# Altium footprint library Sykam-Mech1.PcbLib: 15 footprints (part 3 of 4)
Each footprint in its own frame and in the unit in brackets; x right, y up, seen from the top. Pads: shape width x height; smd on the part's side, far side on the other; paste and mask are expansions set on the pad; w line width, h text height; cw(c..) or ccw(c..) is an arc to the next point about the centre after c.
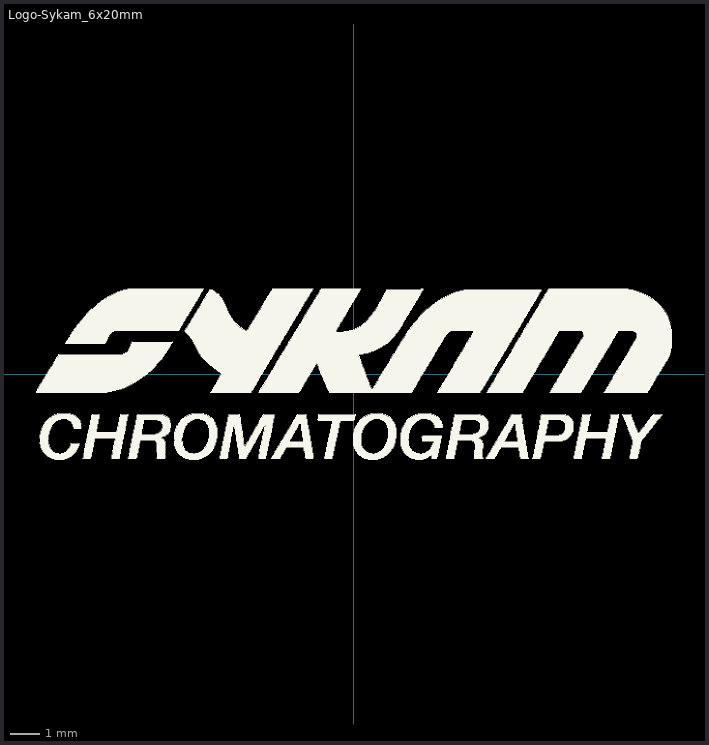
[diagram p2: the footprint, top view; thin cyan lines are the x and y axes]

## Logo-Sykam_6x20mm [mm] "Logo Sykam GmbH in Overlay"
pads (3956):
  round 0.033 on Top Overlay: 1(-10.866,-0.628) 1(-10.866,-0.595) 1(-10.832,-0.562) 1(-10.832,-0.529) 1(-10.799,-0.496) 1(-10.766,-0.463) 1(-10.766,-0.43) 1(-10.733,-2.381) 1(-10.733,-2.348) 1(-10.733,-2.315) 1(-10.733,-2.282) 1(-10.733,-2.249) 1(-10.733,-2.216) 1(-10.733,-2.183) 1(-10.733,-2.15) 1(-10.733,-2.117) 1(-10.733,-2.084) 1(-10.733,-0.397) 1(-10.733,-0.364) 1(-10.7,-2.514) 1(-10.7,-2.481) 1(-10.7,-2.448) 1(-10.7,-2.415) 1(-10.7,-2.051) 1(-10.7,-2.018) 1(-10.7,-1.985) 1(-10.7,-1.951) 1(-10.7,-0.331) 1(-10.667,-2.58) 1(-10.667,-2.547) 1(-10.667,-1.918) 1(-10.667,-1.885) 1(-10.667,-1.852) 1(-10.667,-0.298) 1(-10.667,-0.265) 1(-10.634,-2.646) 1(-10.634,-2.613) 1(-10.634,-1.819) 1(-10.634,-1.786) 1(-10.634,-1.753) 1(-10.634,-0.232) 1(-10.634,-0.198) 1(-10.601,-2.679) 1(-10.601,-1.72) 1(-10.601,-0.165) 1(-10.568,-2.712) 1(-10.568,-1.687) 1(-10.568,-1.654) 1(-10.568,-0.132) 1(-10.568,-0.099) 1(-10.535,-2.745) 1(-10.535,-1.621) 1(-10.535,-0.066) 1(-10.535,-0.033) 1(-10.502,-2.778) 1(-10.502,-1.588) 1(-10.502,0) 1(-10.469,-2.811) 1(-10.469,-2.381) 1(-10.469,-2.348) 1(-10.469,-2.315) 1(-10.469,-2.282) 1(-10.469,-2.249) 1(-10.469,-2.216) 1(-10.469,-2.183) 1(-10.469,-2.15) 1(-10.469,-2.117) 1(-10.469,-2.084) 1(-10.469,-1.555) 1(-10.469,0.033) 1(-10.469,0.066) 1(-10.436,-2.481) 1(-10.436,-2.448) 1(-10.436,-2.415) 1(-10.436,-2.051) 1(-10.436,-2.018) 1(-10.436,-1.985) 1(-10.436,-1.951) 1(-10.436,-1.522) 1(-10.436,0.099) 1(-10.436,0.132) 1(-10.402,-2.845) 1(-10.402,-2.547) 1(-10.402,-2.514) 1(-10.402,-1.918) 1(-10.402,-1.885) 1(-10.402,-1.488) 1(-10.402,0.165) 1(-10.369,-2.58) 1(-10.369,-1.852) 1(-10.369,-1.819) 1(-10.369,0.198) 1(-10.369,0.232) 1(-10.336,-2.878) 1(-10.336,-2.613) 1(-10.336,-1.786) 1(-10.336,-1.753) 1(-10.336,-1.455) 1(-10.336,0.265) 1(-10.303,-2.646) 1(-10.303,-1.72) 1(-10.303,-1.422) 1(-10.303,0.298) 1(-10.303,0.331) 1(-10.27,-1.687) 1(-10.27,0.364) 1(-10.27,0.397) 1(-10.237,-2.911) 1(-10.237,-2.679) 1(-10.237,-1.654) 1(-10.237,-1.389) 1(-10.237,0.43) 1(-10.204,-1.621) 1(-10.204,0.463) 1(-10.204,0.496) 1(-10.171,0.529) 1(-10.171,0.562) 1(-10.138,-1.588) 1(-10.138,-1.356) 1(-10.138,0.595) 1(-10.105,-2.712) 1(-10.105,0.628) 1(-10.105,0.662) 1(-10.039,-1.555) 1(-10.006,-2.712) 1(-9.906,-2.911) 1(-9.906,-2.679) 1(-9.873,1.058) 1(-9.84,-2.646) 1(-9.84,1.092) 1(-9.84,1.125) 1(-9.807,-2.878) 1(-9.807,-2.613) 1(-9.807,-1.555) 1(-9.807,1.158) 1(-9.774,-2.58) 1(-9.774,1.191) 1(-9.774,1.224) 1(-9.741,-2.845) 1(-9.741,-2.547) 1(-9.741,-1.588) 1(-9.741,1.257) 1(-9.708,-2.514) 1(-9.708,-2.481) 1(-9.708,-1.356) 1(-9.708,1.29) 1(-9.708,1.323) 1(-9.675,-2.811) 1(-9.675,-2.448) 1(-9.675,-2.415) 1(-9.675,-2.381) 1(-9.675,-1.621) 1(-9.675,1.356) 1(-9.642,-2.778) 1(-9.642,-1.687) 1(-9.642,-1.654) 1(-9.642,1.389) 1(-9.642,1.422) 1(-9.609,-2.745) 1(-9.609,-1.786) 1(-9.609,-1.753) 1(-9.609,-1.72) 1(-9.609,-1.389) 1(-9.609,1.455) 1(-9.576,-2.712) 1(-9.576,-1.852) 1(-9.576,-1.819) 1(-9.576,1.488) 1(-9.576,1.522) 1(-9.543,-2.679) 1(-9.543,-1.422) 1(-9.543,1.555) 1(-9.509,-2.646) 1(-9.509,-2.613) 1(-9.509,-1.455) 1(-9.509,1.588) 1(-9.476,-2.58) 1(-9.476,-2.547) 1(-9.476,-1.488) 1(-9.476,1.621) 1(-9.476,1.654) 1(-9.443,-2.514) 1(-9.443,-2.481) 1(-9.443,-1.522) 1(-9.443,1.687) 1(-9.41,-2.448) 1(-9.41,-2.415) 1(-9.41,-2.381) 1(-9.41,-1.555) 1(-9.41,1.72) 1(-9.377,-1.654) 1(-9.377,-1.621) 1(-9.377,-1.588) 1(-9.377,1.753) 1(-9.377,1.786) 1(-9.344,-1.852) 1(-9.344,-1.819) 1(-9.344,-1.786) 1(-9.344,-1.753) 1(-9.344,-1.72) 1(-9.344,-1.687) 1(-9.344,1.819) 1(-9.311,1.852) 1(-9.278,-2.878) 1(-9.278,1.885) 1(-9.245,-2.845) 1(-9.245,-2.811) 1(-9.245,-2.778) 1(-9.245,-2.745) 1(-9.245,-2.712) 1(-9.245,1.918) 1(-9.212,-2.679) 1(-9.212,-2.646) 1(-9.212,-2.613) 1(-9.212,-2.58) 1(-9.212,-2.547) 1(-9.212,1.952) 1(-9.179,-2.514) 1(-9.179,-2.481) 1(-9.179,-2.448) 1(-9.179,-2.415) 1(-9.179,-2.381) 1(-9.179,1.985) 1(-9.146,-2.348) 1(-9.146,-2.315) 1(-9.146,-2.282) 1(-9.146,-2.249) 1(-9.146,-2.216) 1(-9.146,2.018) 1(-9.146,2.051) 1(-9.113,-2.183) 1(-9.113,-2.15) 1(-9.113,-2.117) 1(-9.113,-2.084) 1(-9.113,-2.051) 1(-9.113,2.084) 1(-9.079,-2.018) 1(-9.079,-1.985) 1(-9.079,-1.951) 1(-9.079,-1.918) 1(-9.079,2.117) 1(-9.046,-1.885) 1(-9.046,-1.852) 1(-9.046,-1.819) 1(-9.046,-1.786) 1(-9.046,-1.753) 1(-9.046,2.15) 1(-9.013,-2.878) 1(-9.013,-2.845) 1(-9.013,-1.72) 1(-9.013,-1.687) 1(-9.013,-1.654) 1(-9.013,-1.621) 1(-9.013,-1.588) 1(-9.013,2.183) 1(-8.98,-2.811) 1(-8.98,-2.778) 1(-8.98,-2.745) 1(-8.98,-2.712) 1(-8.98,-2.679) 1(-8.98,-1.555) 1(-8.98,-1.522) 1(-8.98,-1.488) 1(-8.98,-1.455) 1(-8.98,-1.422) 1(-8.98,2.216) 1(-8.947,-2.646) 1(-8.947,-2.613) 1(-8.947,-2.58) 1(-8.947,-2.547) 1(-8.947,-2.514) 1(-8.947,-1.389) 1(-8.914,-2.481) 1(-8.914,-2.448) 1(-8.914,-2.415) 1(-8.914,-2.381) 1(-8.914,-2.348) 1(-8.914,2.249) 1(-8.881,-2.315) 1(-8.881,-2.282) 1(-8.881,-2.249) 1(-8.881,-2.216) 1(-8.881,2.282) 1(-8.848,2.315) 1(-8.815,-1.951) 1(-8.815,-1.918) 1(-8.815,-1.885) 1(-8.815,2.348) 1(-8.782,-1.852) 1(-8.782,-1.819) 1(-8.782,-1.786) 1(-8.782,-1.753) 1(-8.782,-1.72) 1(-8.782,2.381) 1(-8.749,-1.687) 1(-8.749,-1.654) 1(-8.749,-1.621) 1(-8.749,-1.588) 1(-8.749,-1.555) 1(-8.749,2.415) 1(-8.716,-1.522) 1(-8.716,-1.488) 1(-8.716,-1.455) 1(-8.716,-1.422) 1(-8.716,-1.389) 1(-8.683,2.448) 1(-8.649,2.481) 1(-8.616,2.514) 1(-8.55,2.547) 1(-8.517,1.058) 1(-8.517,2.58) 1(-8.484,1.092) 1(-8.484,1.125) 1(-8.451,-0.628) 1(-8.451,1.158) 1(-8.451,1.191) 1(-8.451,2.613) 1(-8.418,1.224) 1(-8.418,1.257) 1(-8.418,2.646) 1(-8.385,1.29) 1(-8.385,1.323) 1(-8.352,1.356) 1(-8.352,2.679) 1(-8.319,1.389) 1(-8.286,-2.878) 1(-8.286,-2.845) 1(-8.286,-2.811) 1(-8.286,-2.778) 1(-8.286,-0.595) 1(-8.286,1.422) 1(-8.286,2.712) 1(-8.253,-2.745) 1(-8.253,-2.712) 1(-8.253,-2.679) 1(-8.253,-2.646) 1(-8.253,-2.613) 1(-8.219,-2.58) 1(-8.219,-2.547) 1(-8.219,-2.514) 1(-8.219,-2.481) 1(-8.219,-2.448) 1(-8.219,1.455) 1(-8.219,2.745) 1(-8.186,-2.415) 1(-8.186,-2.381) 1(-8.186,-2.348) 1(-8.186,-2.315) 1(-8.186,-2.282) 1(-8.153,-2.249) 1(-8.153,-2.216) 1(-8.153,-0.562) 1(-8.153,2.778) 1(-8.12,-1.951) 1(-8.087,-1.918) 1(-8.087,-1.885) 1(-8.087,-1.852) 1(-8.087,-1.819) 1(-8.087,2.811) 1(-8.054,-1.786) 1(-8.054,-1.753) 1(-8.054,-1.72) 1(-8.054,-1.687) 1(-8.054,-1.654) 1(-8.054,-0.529) 1(-8.021,-2.878) 1(-8.021,-2.845) 1(-8.021,-2.811) 1(-8.021,-2.778) 1(-8.021,-2.745) 1(-8.021,-1.621) 1(-8.021,-1.588) 1(-8.021,-1.555) 1(-8.021,-1.522) 1(-8.021,-1.488) 1(-7.988,-2.712) 1(-7.988,-2.679) 1(-7.988,-2.646) 1(-7.988,-2.613) 1(-7.988,-2.58) 1(-7.988,-1.455) 1(-7.988,-1.422) 1(-7.988,-1.389) 1(-7.988,2.845) 1(-7.955,-2.547) 1(-7.955,-2.514) 1(-7.955,-2.481) 1(-7.955,-2.448) 1(-7.955,-2.415) 1(-7.955,-0.496) 1(-7.922,-2.381) 1(-7.922,-2.348) 1(-7.922,-2.315) 1(-7.922,-2.282) 1(-7.922,-2.249) 1(-7.889,-2.216) 1(-7.889,-2.183) 1(-7.889,-2.15) 1(-7.889,-2.117) 1(-7.889,-2.084) 1(-7.889,0.695) 1(-7.889,2.878) 1(-7.856,-2.051) 1(-7.856,-2.018) 1(-7.856,-1.985) 1(-7.856,-1.951) 1(-7.856,-0.463) 1(-7.823,-1.918) 1(-7.823,-1.885) 1(-7.823,-1.852) 1(-7.823,-1.819) 1(-7.823,-1.786) 1(-7.823,0.728) 1(-7.789,-1.753) 1(-7.789,-1.72) 1(-7.789,-1.687) 1(-7.789,-1.654) 1(-7.789,-1.621) 1(-7.789,-0.43) 1(-7.756,-1.588) 1(-7.756,-1.555) 1(-7.756,-1.522) 1(-7.756,-1.488) 1(-7.756,-1.455) 1(-7.756,0.761) 1(-7.723,-2.878) 1(-7.723,-1.422) 1(-7.723,-1.389) 1(-7.723,-0.397) 1(-7.723,0.794) 1(-7.723,2.911) 1(-7.69,-2.845) 1(-7.69,-2.811) 1(-7.69,-2.778) 1(-7.69,-2.745) 1(-7.69,-2.712) 1(-7.69,0.827) 1(-7.69,0.86) 1(-7.657,-2.679) 1(-7.657,-2.646) 1(-7.657,-2.613) 1(-7.657,-2.58) 1(-7.657,-2.547) 1(-7.657,-0.364) 1(-7.657,0.893) 1(-7.657,0.926) 1(-7.624,-2.514) 1(-7.624,-2.481) 1(-7.624,-2.448) 1(-7.624,-2.415) 1(-7.624,-2.381) 1(-7.624,0.959) 1(-7.624,0.992) 1(-7.624,1.025) 1(-7.591,-2.348) 1(-7.591,-2.315) 1(-7.591,-2.282) 1(-7.591,-2.249) 1(-7.591,-2.216) 1(-7.591,-0.331) 1(-7.591,1.058) 1(-7.591,1.092) 1(-7.558,-2.183) 1(-7.558,-2.15) 1(-7.558,-2.117) 1(-7.558,-2.084) 1(-7.558,-2.051) 1(-7.525,-2.018) 1(-7.525,-1.985) 1(-7.525,-1.951) 1(-7.525,-1.918) 1(-7.525,-0.298) 1(-7.492,-1.885) 1(-7.492,-1.852) 1(-7.492,-1.819) 1(-7.492,-1.786) 1(-7.492,-1.753) 1(-7.459,-2.878) 1(-7.459,-1.72) 1(-7.459,-1.687) 1(-7.459,-1.654) 1(-7.459,-1.621) 1(-7.459,-1.588) 1(-7.459,-0.265) 1(-7.426,-2.845) 1(-7.426,-2.811) 1(-7.426,-2.778) 1(-7.426,-2.745) 1(-7.426,-2.712) 1(-7.426,-1.555) 1(-7.426,-1.522) 1(-7.426,-1.488) 1(-7.426,-1.455) 1(-7.426,-1.422) 1(-7.426,-0.232) 1(-7.393,-2.679) 1(-7.393,-2.646) 1(-7.393,-2.613) 1(-7.393,-2.58) 1(-7.393,-2.547) 1(-7.393,-1.389) 1(-7.359,-2.514) 1(-7.359,-2.481) 1(-7.359,-2.448) 1(-7.359,-2.415) 1(-7.359,-2.381) 1(-7.359,-0.198) 1(-7.326,-2.348) 1(-7.326,-2.315) 1(-7.326,-2.282) 1(-7.326,-0.165) 1(-7.26,-2.051) 1(-7.26,-2.018) 1(-7.26,-1.985) 1(-7.26,-1.951) 1(-7.26,-1.918) 1(-7.26,-1.885) 1(-7.26,-0.132) 1(-7.227,-1.852) 1(-7.227,-1.819) 1(-7.227,-1.786) 1(-7.227,-1.753) 1(-7.227,-1.72) 1(-7.227,-0.099) 1(-7.194,-1.687) 1(-7.194,-1.654) 1(-7.194,-1.621) 1(-7.194,-1.588) 1(-7.161,-0.066) 1(-7.128,-0.033) 1(-7.095,0) 1(-7.062,0.033) 1(-7.029,0.066) 1(-6.963,0.099) 1(-6.929,0.132) 1(-6.896,0.165) 1(-6.863,0.198) 1(-6.83,0.232) 1(-6.797,-2.282) 1(-6.797,0.265) 1(-6.764,-2.315) 1(-6.764,-2.051) 1(-6.764,0.298) 1(-6.764,0.331) 1(-6.731,-2.878) 1(-6.731,-2.845) 1(-6.731,-2.811) 1(-6.731,-2.778) 1(-6.731,-2.745) 1(-6.731,-2.712) 1(-6.731,-2.679) 1(-6.731,-2.646) 1(-6.731,-2.613) 1(-6.731,-2.58) 1(-6.731,-2.547) 1(-6.731,-2.514) 1(-6.731,-2.481) 1(-6.731,-2.448) 1(-6.731,-2.415) 1(-6.731,-2.381) 1(-6.731,-2.348) 1(-6.731,0.364) 1(-6.698,-1.588) 1(-6.698,0.397) 1(-6.665,-2.018) 1(-6.665,0.43) 1(-6.632,-1.985) 1(-6.632,0.463) 1(-6.599,-2.183) 1(-6.599,-1.951) 1(-6.599,-1.621) 1(-6.599,0.496) 1(-6.566,-2.15) 1(-6.566,-1.918) 1(-6.566,-1.885) 1(-6.566,-1.687) 1(-6.566,-1.654) 1(-6.566,0.529) 1(-6.566,0.562) 1(-6.533,-2.216) 1(-6.533,-1.852) 1(-6.533,-1.819) 1(-6.533,-1.786) 1(-6.533,-1.753) 1(-6.533,-1.72) 1(-6.533,-1.389) 1(-6.533,0.595) 1(-6.499,-2.282) 1(-6.499,-2.249) 1(-6.499,0.628) 1(-6.499,0.662) 1(-6.466,-2.878) 1(-6.466,-2.845) 1(-6.466,-2.811) 1(-6.466,-2.778) 1(-6.466,-2.745) 1(-6.466,-2.712) 1(-6.466,-2.679) 1(-6.466,-2.646) 1(-6.466,-2.613) 1(-6.466,-2.58) 1(-6.466,-2.547) 1(-6.466,-2.514) 1(-6.466,-2.481) 1(-6.466,-2.448) 1(-6.466,-2.415) 1(-6.466,-2.381) 1(-6.466,-2.348) 1(-6.466,-2.315) 1(-6.466,-2.117) 1(-6.466,-1.422) 1(-6.466,0.695) 1(-6.433,-2.084) 1(-6.433,0.728) 1(-6.4,-1.455) 1(-6.4,0.761) 1(-6.4,0.794) 1(-6.367,-2.051) 1(-6.367,-2.018) 1(-6.367,-1.488) 1(-6.367,0.827) 1(-6.367,0.86) 1(-6.334,-1.985) 1(-6.334,-1.555) 1(-6.334,-1.522) 1(-6.334,0.893) 1(-6.301,-1.951) 1(-6.301,-1.918) 1(-6.301,-1.885) 1(-6.301,-1.852) 1(-6.301,-1.654) 1(-6.301,-1.621) 1(-6.301,-1.588) 1(-6.301,0.926) 1(-6.301,0.959) 1(-6.268,-1.819) 1(-6.268,-1.786) 1(-6.268,-1.753) 1(-6.268,-1.72) 1(-6.268,-1.687) 1(-6.268,0.992) 1(-6.268,1.025) 1(-6.235,1.058) 1(-6.202,1.092) 1(-6.136,-2.448) 1(-6.136,-2.415) 1(-6.136,-2.381) 1(-6.136,-2.348) 1(-6.136,-2.315) 1(-6.136,-2.282) 1(-6.136,-2.249) 1(-6.136,-2.216) 1(-6.136,-2.183) 1(-6.136,-2.15) 1(-6.136,-2.117) 1(-6.136,-2.084) 1(-6.136,-2.051) 1(-6.136,-2.018) 1(-6.136,-1.985) 1(-6.103,-2.547) 1(-6.103,-2.514) 1(-6.103,-2.481) 1(-6.103,-1.951) 1(-6.103,-1.918) 1(-6.103,-1.885) 1(-6.069,-2.613) 1(-6.069,-2.58) 1(-6.069,-1.852) 1(-6.069,-1.819) 1(-6.069,-1.786) 1(-6.036,-2.679) 1(-6.036,-2.646) 1(-6.036,-1.753) 1(-6.003,-2.712) 1(-6.003,-1.72) 1(-6.003,-1.687) 1(-6.003,1.488) 1(-5.97,-2.745) 1(-5.97,-1.654) 1(-5.97,1.522) 1(-5.97,1.555) 1(-5.937,-2.778) 1(-5.937,-1.621) 1(-5.937,-1.588) 1(-5.937,1.588) 1(-5.937,1.621) 1(-5.904,-2.282) 1(-5.904,-2.249) 1(-5.904,-2.216) 1(-5.904,-2.183) 1(-5.904,-1.555) 1(-5.904,1.654) 1(-5.871,-2.811) 1(-5.871,-2.448) 1(-5.871,-2.415) 1(-5.871,-2.381) 1(-5.871,-2.348) 1(-5.871,-2.315) 1(-5.871,-2.15) 1(-5.871,-2.117) 1(-5.871,-2.084) 1(-5.871,-2.051) 1(-5.871,-2.018) 1(-5.871,-1.522) 1(-5.871,1.687) 1(-5.871,1.72) 1(-5.838,-2.845) 1(-5.838,-2.514) 1(-5.838,-2.481) 1(-5.838,-1.985) 1(-5.838,-1.951) 1(-5.838,-1.918) 1(-5.838,1.753) 1(-5.838,1.786) 1(-5.805,-2.58) 1(-5.805,-2.547) 1(-5.805,-1.885) 1(-5.805,-1.852) 1(-5.805,-1.488) 1(-5.805,1.819) 1(-5.772,-2.878) 1(-5.772,-2.613) 1(-5.772,-1.819) 1(-5.772,-1.786) 1(-5.772,-1.455) 1(-5.772,1.455) 1(-5.772,1.488) 1(-5.772,1.852) 1(-5.772,1.885) 1(-5.739,-1.753) 1(-5.739,1.422) 1(-5.739,1.522) 1(-5.739,1.555) 1(-5.739,1.918) 1(-5.739,1.952) 1(-5.706,-2.646) 1(-5.706,-1.72) 1(-5.706,-1.687) 1(-5.706,-1.422) 1(-5.706,1.389) 1(-5.706,1.588) 1(-5.706,1.985) 1(-5.673,-2.679) 1(-5.673,1.356) 1(-5.673,1.621) 1(-5.673,1.654) 1(-5.673,2.018) 1(-5.673,2.051) 1(-5.64,-2.911) 1(-5.64,-1.654) 1(-5.64,-1.389) 1(-5.64,1.323) 1(-5.64,1.687) 1(-5.64,1.72) 1(-5.64,2.084) 1(-5.64,2.117) 1(-5.606,-1.621) 1(-5.606,1.257) 1(-5.606,1.29) 1(-5.606,1.753) 1(-5.606,2.15) 1(-5.573,1.224) 1(-5.573,1.786) 1(-5.573,1.819) 1(-5.573,2.183) 1(-5.573,2.216) 1(-5.54,-1.588) 1(-5.54,-1.356) 1(-5.54,1.191) 1(-5.54,1.852) 1(-5.54,1.885) 1(-5.54,2.249) 1(-5.54,2.282) 1(-5.507,-2.712) 1(-5.507,1.125) 1(-5.507,1.158) 1(-5.507,1.918) 1(-5.507,2.315) 1(-5.474,-1.555) 1(-5.474,1.058) 1(-5.474,1.092) 1(-5.474,1.952) 1(-5.474,1.985) 1(-5.474,2.348) 1(-5.474,2.381) 1(-5.441,-2.712) 1(-5.441,0.992) 1(-5.441,1.025) 1(-5.441,2.018) 1(-5.441,2.051) 1(-5.441,2.415) 1(-5.441,2.448) 1(-5.408,0.926) 1(-5.408,0.959) 1(-5.408,2.084) 1(-5.408,2.481) 1(-5.375,0.86) 1(-5.375,0.893) 1(-5.375,2.117) 1(-5.375,2.15) 1(-5.375,2.514) 1(-5.375,2.547) 1(-5.342,0.794) 1(-5.342,0.827) 1(-5.342,2.183) 1(-5.342,2.216) 1(-5.342,2.58) 1(-5.342,2.613) 1(-5.309,-2.911) 1(-5.309,-2.679) 1(-5.309,0.728) 1(-5.309,0.761) 1(-5.309,2.249) 1(-5.309,2.646) 1(-5.276,0.695) 1(-5.276,2.282) 1(-5.276,2.315) 1(-5.276,2.679) 1(-5.276,2.712) 1(-5.243,-2.646) 1(-5.243,-1.555) 1(-5.243,0.628) 1(-5.243,0.662) 1(-5.243,2.348) 1(-5.243,2.381) 1(-5.243,2.745) 1(-5.243,2.778) 1(-5.21,-2.878) 1(-5.21,0.595) 1(-5.21,2.415) 1(-5.21,2.811) 1(-5.176,-2.613) 1(-5.176,0.562) 1(-5.176,2.448) 1(-5.176,2.481) 1(-5.176,2.845) 1(-5.176,2.878) 1(-5.143,-2.845) 1(-5.143,-2.58) 1(-5.143,-1.588) 1(-5.143,-1.356) 1(-5.143,0.529) 1(-5.143,2.514) 1(-5.143,2.547) 1(-5.143,2.911) 1(-5.11,-2.547) 1(-5.11,-2.514) 1(-5.11,0.496) 1(-5.11,2.58) 1(-5.077,-2.811) 1(-5.077,-2.481) 1(-5.077,-1.621) 1(-5.077,0.463) 1(-5.077,2.613) 1(-5.077,2.646) 1(-5.044,-2.448) 1(-5.044,-2.415) 1(-5.044,-1.687) 1(-5.044,-1.654) 1(-5.044,-1.389) 1(-5.044,0.43) 1(-5.044,2.679) 1(-5.044,2.712) 1(-5.011,-2.778) 1(-5.011,-2.381) 1(-5.011,-2.348) 1(-5.011,-1.72) 1(-5.011,0.397) 1(-5.011,2.745) 1(-4.978,-2.745) 1(-4.978,-2.315) 1(-4.978,-2.282) 1(-4.978,-2.249) 1(-4.978,-2.216) 1(-4.978,-1.819) 1(-4.978,-1.786) 1(-4.978,-1.753) 1(-4.978,-1.422) 1(-4.978,0.364) 1(-4.978,2.778) 1(-4.978,2.811) 1(-4.945,-2.712) 1(-4.945,-2.183) 1(-4.945,-2.15) 1(-4.945,-2.117) 1(-4.945,-2.084) 1(-4.945,-2.051) 1(-4.945,-2.018) 1(-4.945,-1.985) 1(-4.945,-1.951) 1(-4.945,-1.918) 1(-4.945,-1.885) 1(-4.945,-1.852) 1(-4.945,-1.455) 1(-4.945,0.331) 1(-4.945,2.845) 1(-4.945,2.878) 1(-4.912,-2.679) 1(-4.912,-0.628) 1(-4.912,0.298) 1(-4.879,-2.646) 1(-4.879,-1.488) 1(-4.879,-0.595) 1(-4.846,-2.613) 1(-4.846,-2.58) 1(-4.846,-1.522) 1(-4.846,-0.562) 1(-4.846,-0.529) 1(-4.846,0.265) 1(-4.846,2.878) 1(-4.813,-2.547) 1(-4.813,-2.514) 1(-4.813,-1.588) 1(-4.813,-1.555) 1(-4.813,-0.496) 1(-4.813,-0.463) 1(-4.813,0.232) 1(-4.78,-2.481) 1(-4.78,-2.448) 1(-4.78,-1.621) 1(-4.78,-0.43) 1(-4.78,-0.397) 1(-4.78,0.198) 1(-4.78,2.845) 1(-4.746,-2.415) 1(-4.746,-2.381) 1(-4.746,-2.348) 1(-4.746,-1.72) 1(-4.746,-1.687) 1(-4.746,-1.654) 1(-4.746,-0.364) 1(-4.746,2.811) 1(-4.713,-2.315) 1(-4.713,-2.282) 1(-4.713,-2.249) 1(-4.713,-2.216) 1(-4.713,-1.819) 1(-4.713,-1.786) 1(-4.713,-1.753) 1(-4.713,-0.331) 1(-4.713,-0.298) 1(-4.713,0.165) 1(-4.713,2.778) 1(-4.68,-2.183) 1(-4.68,-2.15) 1(-4.68,-2.117) 1(-4.68,-2.084) 1(-4.68,-2.051) 1(-4.68,-2.018) 1(-4.68,-1.985) 1(-4.68,-1.951) 1(-4.68,-1.918) 1(-4.68,-1.885) 1(-4.68,-1.852) 1(-4.68,-0.265) 1(-4.68,-0.232) 1(-4.68,0.132) 1(-4.647,-0.198) 1(-4.647,0.099) 1(-4.647,2.745) 1(-4.614,-0.165) 1(-4.614,-0.132) 1(-4.614,2.679) 1(-4.614,2.712) 1(-4.581,-2.878) 1(-4.581,-2.845) 1(-4.581,-2.811) 1(-4.581,-0.099) 1(-4.581,-0.066) 1(-4.581,0.066) 1(-4.581,2.646) 1(-4.548,-2.778) 1(-4.548,-2.745) 1(-4.548,-2.712) 1(-4.548,-2.679) 1(-4.548,-2.646) 1(-4.548,-0.033) 1(-4.548,0.033) 1(-4.548,2.613) 1(-4.515,-2.613) 1(-4.515,-2.58) 1(-4.515,-2.547) 1(-4.515,-2.514) 1(-4.515,-2.481) 1(-4.515,0) 1(-4.515,2.547) 1(-4.515,2.58) 1(-4.482,-2.448) 1(-4.482,-2.415) 1(-4.482,-2.381) 1(-4.482,-2.348) 1(-4.482,-2.315) 1(-4.482,2.481) 1(-4.482,2.514) 1(-4.449,-2.282) 1(-4.449,-2.249) 1(-4.449,-2.216) 1(-4.449,-2.183) 1(-4.449,-2.15) 1(-4.449,2.415) 1(-4.449,2.448) 1(-4.416,-2.117) 1(-4.416,-2.084) 1(-4.416,-2.051) 1(-4.416,-2.018) 1(-4.416,-1.985) 1(-4.416,2.348) 1(-4.416,2.381) 1(-4.383,-1.951) 1(-4.383,-1.918) 1(-4.383,-1.885) 1(-4.383,-1.852) 1(-4.383,-1.819) 1(-4.383,2.282) 1(-4.383,2.315) 1(-4.35,-2.878) 1(-4.35,-1.786) 1(-4.35,-1.753) 1(-4.35,-1.72) 1(-4.35,-1.687) 1(-4.35,-1.654) 1(-4.35,2.183) 1(-4.35,2.216) 1(-4.35,2.249) 1(-4.316,-2.845) 1(-4.316,-2.811) 1(-4.316,-2.778) 1(-4.316,-2.745) 1(-4.316,-2.712) 1(-4.316,-2.679) 1(-4.316,-1.621) 1(-4.316,-1.588) 1(-4.316,-1.555) 1(-4.316,-1.522) 1(-4.316,-1.488) 1(-4.316,2.117) 1(-4.316,2.15) 1(-4.283,-2.646) 1(-4.283,-2.613) 1(-4.283,-2.58) 1(-4.283,-2.547) 1(-4.283,-2.514) 1(-4.283,-1.455) 1(-4.283,-1.422) 1(-4.283,-1.389) 1(-4.283,2.051) 1(-4.283,2.084) 1(-4.25,-2.481) 1(-4.25,-2.448) 1(-4.25,-2.415) 1(-4.25,-2.381) 1(-4.25,-2.348) 1(-4.25,2.018) 1(-4.217,-2.315) 1(-4.217,-2.282) 1(-4.217,-2.249) 1(-4.217,-2.216) 1(-4.217,-2.183) 1(-4.217,-2.15) 1(-4.217,1.952) 1(-4.217,1.985) 1(-4.184,-2.117) 1(-4.184,-2.084) 1(-4.184,-2.051) 1(-4.184,-2.018) 1(-4.184,-1.985) 1(-4.184,1.918) 1(-4.151,-1.951) 1(-4.151,-1.918) 1(-4.151,-1.885) 1(-4.151,-1.852) 1(-4.151,-1.819) 1(-4.151,1.852) 1(-4.151,1.885) 1(-4.118,-1.786) 1(-4.118,-1.753) 1(-4.118,-1.72) 1(-4.118,1.819) 1(-4.085,-1.852) 1(-4.085,-1.819) 1(-4.085,-1.786) 1(-4.085,-1.753) 1(-4.085,-1.72) 1(-4.085,1.786) 1(-4.052,-2.051) 1(-4.052,-2.018) 1(-4.052,-1.985) 1(-4.052,-1.951) 1(-4.052,-1.918) 1(-4.052,-1.885) 1(-4.052,1.753) 1(-4.019,-2.282) 1(-4.019,-2.249) 1(-4.019,-2.216) 1(-4.019,-2.183) 1(-4.019,-2.15) 1(-4.019,-2.117) 1(-4.019,-2.084) 1(-4.019,1.72) 1(-3.986,-2.481) 1(-3.986,-2.448) 1(-3.986,-2.415) 1(-3.986,-2.381) 1(-3.986,-2.348) 1(-3.986,-2.315) 1(-3.986,1.687) 1(-3.953,-2.712) 1(-3.953,-2.679) 1(-3.953,-2.646) 1(-3.953,-2.613) 1(-3.953,-2.58) 1(-3.953,-2.547) 1(-3.953,-2.514) 1(-3.953,1.654) 1(-3.92,-2.878) 1(-3.92,-2.845) 1(-3.92,-2.811) 1(-3.92,-2.778) 1(-3.92,-2.745) 1(-3.92,-1.455) 1(-3.92,-1.422) 1(-3.92,-1.389) 1(-3.92,1.621) 1(-3.886,-1.687) 1(-3.886,-1.654) 1(-3.886,-1.621) 1(-3.886,-1.588) 1(-3.886,-1.555) 1(-3.886,-1.522) 1(-3.886,-1.488) 1(-3.853,-1.918) 1(-3.853,-1.885) 1(-3.853,-1.852) 1(-3.853,-1.819) 1(-3.853,-1.786) 1(-3.853,-1.753) 1(-3.853,-1.72) 1(-3.853,1.588) 1(-3.82,-2.15) 1(-3.82,-2.117) 1(-3.82,-2.084) 1(-3.82,-2.051) 1(-3.82,-2.018) 1(-3.82,-1.985) 1(-3.82,-1.951) 1(-3.82,1.555) 1(-3.787,-2.381) 1(-3.787,-2.348) 1(-3.787,-2.315) 1(-3.787,-2.282) 1(-3.787,-2.249) 1(-3.787,-2.216) 1(-3.787,-2.183) 1(-3.754,-2.514) 1(-3.754,-2.481) 1(-3.754,-2.448) 1(-3.754,-2.415) 1(-3.754,1.522) 1(-3.721,-2.514) 1(-3.721,-2.481) 1(-3.721,1.488) 1(-3.688,-2.878) 1(-3.688,-2.845) 1(-3.688,-2.448) 1(-3.688,-2.415) 1(-3.655,-2.811) 1(-3.655,-2.778) 1(-3.655,-2.381) 1(-3.655,-2.348) 1(-3.655,1.488) 1(-3.622,-2.745) 1(-3.622,-2.712) 1(-3.622,-2.315) 1(-3.622,1.522) 1(-3.589,-2.679) 1(-3.589,-2.282) 1(-3.589,-2.249) 1(-3.589,1.555) 1(-3.589,1.588) 1(-3.556,-2.646) 1(-3.556,-2.613) 1(-3.556,-2.216) 1(-3.556,-2.183) 1(-3.556,1.621) 1(-3.556,1.654) 1(-3.523,-2.58) 1(-3.523,-2.547) 1(-3.523,-2.15) 1(-3.523,-2.117) 1(-3.523,-0.628) 1(-3.523,-0.595) 1(-3.523,1.687) 1(-3.49,-2.514) 1(-3.49,-2.481) 1(-3.49,-2.084) 1(-3.49,-0.562) 1(-3.49,1.72) 1(-3.49,1.753) 1(-3.456,-2.448) 1(-3.456,-2.415) 1(-3.456,-2.051) 1(-3.456,-2.018) 1(-3.456,-0.529) 1(-3.456,-0.496) 1(-3.456,1.786) 1(-3.456,1.819) 1(-3.423,-2.381) 1(-3.423,-1.985) 1(-3.423,-1.951) 1(-3.423,-0.463) 1(-3.423,-0.43) 1(-3.423,1.852) 1(-3.39,-2.348) 1(-3.39,-2.315) 1(-3.39,-1.918) 1(-3.39,-1.885) 1(-3.39,-0.397) 1(-3.39,1.885) 1(-3.39,1.918) 1(-3.357,-2.282) 1(-3.357,-2.249) 1(-3.357,-1.852) 1(-3.357,-1.819) 1(-3.357,-0.364) 1(-3.357,-0.331) 1(-3.357,1.952) 1(-3.357,1.985) 1(-3.324,-2.216) 1(-3.324,-2.183) 1(-3.324,-1.786) 1(-3.324,-0.298) 1(-3.324,-0.265) 1(-3.324,2.018) 1(-3.291,-2.15) 1(-3.291,-2.117) 1(-3.291,-1.753) 1(-3.291,-1.72) 1(-3.291,-0.232) 1(-3.291,2.051) 1(-3.291,2.084) 1(-3.258,-2.878) 1(-3.258,-2.845) 1(-3.258,-2.811) 1(-3.258,-2.778) 1(-3.258,-2.745) 1(-3.258,-2.084) 1(-3.258,-1.687) 1(-3.258,-1.654) 1(-3.258,-0.628) 1(-3.258,-0.198) 1(-3.258,-0.165) 1(-3.258,2.117) 1(-3.258,2.15) 1(-3.225,-2.712) 1(-3.225,-2.679) 1(-3.225,-2.646) 1(-3.225,-2.613) 1(-3.225,-2.58) 1(-3.225,-2.051) 1(-3.225,-2.018) 1(-3.225,-1.621) 1(-3.225,-1.588) 1(-3.225,-0.595) 1(-3.225,-0.562) 1(-3.225,-0.132) 1(-3.225,-0.099) 1(-3.225,2.183) 1(-3.192,-2.547) 1(-3.192,-2.514) 1(-3.192,-2.481) 1(-3.192,-2.448) 1(-3.192,-1.985) 1(-3.192,-1.951) 1(-3.192,-1.555) 1(-3.192,-1.522) 1(-3.192,-0.529) 1(-3.192,-0.496) 1(-3.192,-0.066) 1(-3.192,-0.033) 1(-3.192,2.216) 1(-3.192,2.249) 1(-3.159,-2.415) 1(-3.159,-2.381) 1(-3.159,-2.348) 1(-3.159,-2.315) 1(-3.159,-2.282) 1(-3.159,-1.918) 1(-3.159,-1.885) 1(-3.159,-1.488) 1(-3.159,-0.463) 1(-3.159,0) 1(-3.159,2.282) 1(-3.159,2.315) 1(-3.126,-2.249) 1(-3.126,-2.216) 1(-3.126,-2.183) 1(-3.126,-2.15) 1(-3.126,-2.117) 1(-3.126,-1.852) 1(-3.126,-1.819) 1(-3.126,-1.455) 1(-3.126,-1.422) 1(-3.126,-0.43) 1(-3.126,-0.397) 1(-3.126,0.033) 1(-3.126,0.066) 1(-3.126,2.348) 1(-3.093,-2.084) 1(-3.093,-2.051) 1(-3.093,-2.018) 1(-3.093,-1.985) 1(-3.093,-1.786) 1(-3.093,-1.389) 1(-3.093,-0.364) 1(-3.093,0.099) 1(-3.093,0.132) 1(-3.093,2.381) 1(-3.093,2.415) 1(-3.06,-1.951) 1(-3.06,-1.918) 1(-3.06,-1.885) 1(-3.06,-1.852) 1(-3.06,-1.819) 1(-3.06,-1.753) 1(-3.06,-1.72) 1(-3.06,-0.331) 1(-3.06,-0.298) 1(-3.06,0.165) 1(-3.06,2.448) 1(-3.06,2.481) 1(-3.026,-2.878) 1(-3.026,-2.845) 1(-3.026,-2.811) 1(-3.026,-1.786) 1(-3.026,-1.753) 1(-3.026,-1.72) 1(-3.026,-0.265) 1(-3.026,-0.232) 1(-3.026,0.198) 1(-3.026,0.232) 1(-3.026,2.514) 1(-2.993,-2.778) 1(-2.993,-2.745) 1(-2.993,-2.712) 1(-2.993,-2.679) 1(-2.993,-2.646) 1(-2.993,-0.198) 1(-2.993,0.265) 1(-2.993,0.298) 1(-2.993,2.547) 1(-2.993,2.58) 1(-2.96,-2.613) 1(-2.96,-2.58) 1(-2.96,-2.547) 1(-2.96,-2.514) 1(-2.96,-2.481) 1(-2.96,-0.165) 1(-2.96,-0.132) 1(-2.96,0.331) 1(-2.96,2.613) 1(-2.96,2.646) 1(-2.927,-2.448) 1(-2.927,-2.415) 1(-2.927,-2.381) 1(-2.927,-2.348) 1(-2.927,-2.315) 1(-2.927,-0.099) 1(-2.927,-0.066) 1(-2.927,0.364) 1(-2.927,0.397) 1(-2.927,2.679) 1(-2.894,-2.282) 1(-2.894,-2.249) 1(-2.894,-2.216) 1(-2.894,-2.183) 1(-2.894,-0.033) 1(-2.894,0.43) 1(-2.894,0.463) 1(-2.894,2.712) 1(-2.894,2.745) 1(-2.861,-2.15) 1(-2.861,-2.117) 1(-2.861,-2.084) 1(-2.861,-2.051) 1(-2.861,-2.018) 1(-2.861,0) 1(-2.861,0.033) 1(-2.861,0.496) 1(-2.861,2.778) 1(-2.861,2.811) 1(-2.828,-2.878) 1(-2.828,-1.985) 1(-2.828,-1.951) 1(-2.828,-1.918) 1(-2.828,-1.885) 1(-2.828,-1.852) 1(-2.828,0.066) 1(-2.828,0.099) 1(-2.828,0.529) 1(-2.828,0.562) 1(-2.828,2.845) 1(-2.795,-2.845) 1(-2.795,-2.811) 1(-2.795,-1.819) 1(-2.795,-1.786) 1(-2.795,-1.753) 1(-2.795,-1.72) 1(-2.795,-1.687) 1(-2.795,0.132) 1(-2.795,0.595) 1(-2.795,0.628) 1(-2.795,2.878) 1(-2.795,2.911) 1(-2.762,-2.778) 1(-2.762,-1.654) 1(-2.762,-1.621) 1(-2.762,-1.588) 1(-2.762,-1.555) 1(-2.762,-1.522) 1(-2.762,0.165) 1(-2.762,0.198) 1(-2.762,0.662) 1(-2.729,-2.745) 1(-2.729,-2.712) 1(-2.729,-1.488) 1(-2.729,-1.455) 1(-2.729,-1.422) 1(-2.729,-1.389) 1(-2.729,0.232) 1(-2.729,0.265) 1(-2.729,0.695) 1(-2.729,0.728) 1(-2.696,-2.679) 1(-2.696,-2.646) 1(-2.696,0.298) 1(-2.696,0.761) 1(-2.696,0.794) 1(-2.663,-2.613) 1(-2.663,0.331) 1(-2.663,0.364) 1(-2.663,0.827) 1(-2.63,-2.58) 1(-2.63,-2.547) 1(-2.63,0.397) 1(-2.63,0.43) 1(-2.63,0.86) 1(-2.63,0.893) 1(-2.596,-2.514) 1(-2.596,-2.481) 1(-2.596,0.463) 1(-2.596,0.926) 1(-2.596,0.959) 1(-2.563,-2.448) 1(-2.563,0.496) 1(-2.563,0.529) 1(-2.563,0.992) 1(-2.53,-2.878) 1(-2.53,-2.845) 1(-2.53,-2.415) 1(-2.53,-2.381) 1(-2.53,0.562) 1(-2.53,0.595) 1(-2.53,1.025) 1(-2.53,1.058) 1(-2.497,-2.811) 1(-2.497,-2.778) 1(-2.497,-2.348) 1(-2.497,-2.315) 1(-2.497,0.628) 1(-2.497,1.092) 1(-2.497,1.125) 1(-2.464,-2.745) 1(-2.464,-2.282) 1(-2.464,0.662) 1(-2.464,0.695) 1(-2.464,1.158) 1(-2.431,-2.712) 1(-2.431,-2.679) 1(-2.431,-2.249) 1(-2.431,-2.216) 1(-2.431,0.728) 1(-2.431,0.761) 1(-2.431,1.191) 1(-2.431,1.224) 1(-2.398,-2.646) 1(-2.398,-2.613) 1(-2.398,-2.183) 1(-2.398,-2.15) 1(-2.398,0.794) 1(-2.398,1.257) 1(-2.398,1.29) 1(-2.365,-2.58) 1(-2.365,-2.547) 1(-2.365,-2.117) 1(-2.365,-2.084) 1(-2.365,0.827) 1(-2.365,0.86) 1(-2.365,1.323) 1(-2.332,-2.514) 1(-2.332,-2.051) 1(-2.332,0.893) 1(-2.332,0.926) 1(-2.332,1.356) 1(-2.332,1.389) 1(-2.299,-2.018) 1(-2.299,-1.985) 1(-2.299,0.959) 1(-2.299,1.422) 1(-2.299,1.455) 1(-2.266,-1.951) 1(-2.266,-1.918) 1(-2.266,0.992) 1(-2.266,1.025) 1(-2.266,1.488) 1(-2.233,-1.885) 1(-2.233,1.058) 1(-2.233,1.092) 1(-2.233,1.522) 1(-2.233,1.555) 1(-2.2,-2.282) 1(-2.2,-2.249) 1(-2.2,-1.852) 1(-2.2,-1.819) 1(-2.2,1.125) 1(-2.2,1.588) 1(-2.2,1.621) 1(-2.166,-2.216) 1(-2.166,-1.786) 1(-2.166,-1.753) 1(-2.166,1.158) 1(-2.166,1.191) 1(-2.166,1.654) 1(-2.133,-2.183) 1(-2.133,-2.15) 1(-2.133,-1.72) 1(-2.133,1.224) 1(-2.133,1.257) 1(-2.133,1.687) 1(-2.133,1.72) 1(-2.1,-2.117) 1(-2.1,-2.084) 1(-2.1,-1.687) 1(-2.1,-1.654) 1(-2.1,1.29) 1(-2.1,1.753) 1(-2.1,1.786) 1(-2.067,-2.051) 1(-2.067,-2.018) 1(-2.067,-1.621) 1(-2.067,-1.588) 1(-2.067,1.323) 1(-2.067,1.356) 1(-2.067,1.819) 1(-2.034,-1.985) 1(-2.034,-1.951) 1(-2.034,-1.555) 1(-2.034,1.389) 1(-2.034,1.422) 1(-2.034,1.852) 1(-2.034,1.885) 1(-2.001,-1.918) 1(-2.001,-1.522) 1(-2.001,-1.488) 1(-2.001,1.455) 1(-2.001,1.918) 1(-2.001,1.952) 1(-1.968,-1.885) 1(-1.968,-1.852) 1(-1.968,-1.455) 1(-1.968,-1.422) 1(-1.968,1.488) 1(-1.968,1.522) 1(-1.968,1.985) 1(-1.935,-1.819) 1(-1.935,-1.786) 1(-1.935,-1.389) 1(-1.935,1.555) 1(-1.935,2.018) 1(-1.935,2.051) 1(-1.902,-1.753) 1(-1.902,-1.72) 1(-1.902,-0.628) 1(-1.902,1.588) 1(-1.902,1.621) 1(-1.902,2.084) 1(-1.902,2.117) 1(-1.869,-1.687) 1(-1.869,-1.654) 1(-1.869,-0.595) 1(-1.869,1.654) 1(-1.869,1.687) 1(-1.869,2.15) 1(-1.836,-1.687) 1(-1.836,-1.654) 1(-1.836,-0.562) 1(-1.836,-0.529) 1(-1.836,1.72) 1(-1.836,2.183) 1(-1.836,2.216) 1(-1.803,-1.918) 1(-1.803,-1.885) 1(-1.803,-1.852) 1(-1.803,-1.819) 1(-1.803,-1.786) 1(-1.803,-1.753) 1(-1.803,-1.72) 1(-1.803,-0.496) 1(-1.803,-0.463) 1(-1.803,1.753) 1(-1.803,1.786) 1(-1.803,2.249) 1(-1.803,2.282) 1(-1.77,-2.15) 1(-1.77,-2.117) 1(-1.77,-2.084) 1(-1.77,-2.051) 1(-1.77,-2.018) 1(-1.77,-1.985) 1(-1.77,-1.951) 1(-1.77,-0.43) 1(-1.77,1.819) 1(-1.77,1.852) 1(-1.77,2.315) 1(-1.737,-2.282) 1(-1.737,-2.249) 1(-1.737,-2.216) 1(-1.737,-2.183) 1(-1.737,-0.397) 1(-1.737,-0.364) 1(-1.737,1.885) 1(-1.737,2.348) 1(-1.737,2.381) 1(-1.703,-2.613) 1(-1.703,-2.58) 1(-1.703,-2.547) 1(-1.703,-2.514) 1(-1.703,-0.331) 1(-1.703,-0.298) 1(-1.703,1.918) 1(-1.703,1.952) 1(-1.703,2.415) 1(-1.703,2.448) 1(-1.67,-2.845) 1(-1.67,-2.811) 1(-1.67,-2.778) 1(-1.67,-2.745) 1(-1.67,-2.712) 1(-1.67,-2.679) 1(-1.67,-2.646) 1(-1.67,-0.265) 1(-1.67,1.985) 1(-1.67,2.018) 1(-1.67,2.481) 1(-1.637,-2.878) 1(-1.637,-1.522) 1(-1.637,-1.488) 1(-1.637,-1.455) 1(-1.637,-1.422) 1(-1.637,-1.389) 1(-1.637,-0.232) 1(-1.637,-0.198) 1(-1.637,2.051) 1(-1.637,2.514) 1(-1.637,2.547) 1(-1.604,-1.72) 1(-1.604,-1.687) 1(-1.604,-1.654) 1(-1.604,-1.621) 1(-1.604,-1.588) 1(-1.604,-1.555) 1(-1.604,-0.165) 1(-1.604,-0.132) 1(-1.604,2.084) 1(-1.604,2.117) 1(-1.604,2.58) 1(-1.604,2.613) 1(-1.571,-1.885) 1(-1.571,-1.852) 1(-1.571,-1.819) 1(-1.571,-1.786) 1(-1.571,-1.753) 1(-1.571,-0.099) 1(-1.571,2.15) 1(-1.571,2.183) 1(-1.571,2.646) 1(-1.538,-2.084) 1(-1.538,-2.051) 1(-1.538,-2.018) 1(-1.538,-1.985) 1(-1.538,-1.951) 1(-1.538,-1.918) 1(-1.538,-0.066) 1(-1.538,-0.033) 1(-1.538,2.216) 1(-1.538,2.679) 1(-1.538,2.712) 1(-1.505,-2.282) 1(-1.505,-2.249) 1(-1.505,-2.216) 1(-1.505,-2.183) 1(-1.505,-2.15) 1(-1.505,-2.117) 1(-1.505,0) 1(-1.505,0.033) 1(-1.505,2.249) 1(-1.505,2.282) 1(-1.505,2.745) 1(-1.505,2.778) 1(-1.472,-2.481) 1(-1.472,-2.448) 1(-1.472,-2.415) 1(-1.472,-2.381) 1(-1.472,-2.348) 1(-1.472,-2.315) 1(-1.472,0.066) 1(-1.472,2.315) 1(-1.472,2.348) 1(-1.472,2.811) 1(-1.439,-2.679) 1(-1.439,-2.646) 1(-1.439,-2.613) 1(-1.439,-2.58) 1(-1.439,-2.547) 1(-1.439,-2.514) 1(-1.439,0.099) 1(-1.439,0.132) 1(-1.439,2.381) 1(-1.439,2.845) 1(-1.439,2.878) 1(-1.406,-2.878) 1(-1.406,-2.845) 1(-1.406,-2.811) 1(-1.406,-2.778) 1(-1.406,-2.745) 1(-1.406,-2.712) 1(-1.406,0.165) 1(-1.406,0.198) 1(-1.406,2.415) 1(-1.406,2.448) 1(-1.406,2.911) 1(-1.373,0.232) 1(-1.373,2.481) 1(-1.373,2.514) 1(-1.34,0.265) 1(-1.34,0.298) 1(-1.34,2.547) 1(-1.307,0.331) 1(-1.307,0.364) 1(-1.307,2.58) 1(-1.307,2.613) 1(-1.273,0.364) 1(-1.273,2.646) 1(-1.273,2.679) 1(-1.24,-1.555) 1(-1.24,0.298) 1(-1.24,0.331) 1(-1.24,2.712) 1(-1.207,-1.588) 1(-1.207,-1.522) 1(-1.207,-1.488) 1(-1.207,-1.455) 1(-1.207,-1.422) 1(-1.207,-1.389) 1(-1.207,0.198) 1(-1.207,0.232) 1(-1.207,0.265) 1(-1.207,2.745) 1(-1.207,2.778) 1(-1.174,0.132) 1(-1.174,0.165) 1(-1.174,2.811) 1(-1.174,2.845) 1(-1.141,0.033) 1(-1.141,0.066) 1(-1.141,0.099) 1(-1.141,2.878) 1(-1.108,-0.033) 1(-1.108,0) 1(-1.108,2.911) 1(-1.075,-0.099) 1(-1.075,-0.066) 1(-1.042,-0.198) 1(-1.042,-0.165) 1(-1.042,-0.132) 1(-1.009,-2.878) 1(-1.009,-2.845) 1(-1.009,-0.265) 1(-1.009,-0.232) 1(-0.976,-2.811) 1(-0.976,-2.778) 1(-0.976,-2.745) 1(-0.976,-2.712) 1(-0.976,-2.679) 1(-0.976,-0.331) 1(-0.976,-0.298) 1(-0.943,-2.646) 1(-0.943,-2.613) 1(-0.943,-2.58) 1(-0.943,-2.547) 1(-0.943,-2.514) 1(-0.943,-0.43) 1(-0.943,-0.397) 1(-0.943,-0.364) 1(-0.91,-2.481) 1(-0.91,-2.448) 1(-0.91,-2.415) 1(-0.91,-2.381) 1(-0.91,-2.348) 1(-0.91,-0.496) 1(-0.91,-0.463) 1(-0.877,-2.315) 1(-0.877,-2.282) 1(-0.877,-2.249) 1(-0.877,-2.216) 1(-0.877,-2.183) 1(-0.877,-0.562) 1(-0.877,-0.529) 1(-0.843,-2.15) 1(-0.843,-2.117) 1(-0.843,-2.084) 1(-0.843,-2.051) 1(-0.843,-0.628) 1(-0.843,-0.595) 1(-0.81,-2.018) 1(-0.81,-1.985) 1(-0.81,-1.951) 1(-0.81,-1.918) 1(-0.81,-1.885) 1(-0.777,-1.852) 1(-0.777,-1.819) 1(-0.777,-1.786) 1(-0.777,-1.753) 1(-0.777,-1.72) 1(-0.744,-2.878) 1(-0.744,-2.845) 1(-0.744,-2.811) 1(-0.744,-1.687) 1(-0.744,-1.654) 1(-0.744,-1.621) 1(-0.711,-2.778) 1(-0.711,-2.745) 1(-0.711,-2.712) 1(-0.711,-2.679) 1(-0.711,-2.646) 1(-0.678,-2.613) 1(-0.678,-2.58) 1(-0.678,-2.547) 1(-0.678,-2.514) 1(-0.678,-2.481) 1(-0.645,-2.448) 1(-0.645,-2.415) 1(-0.645,-2.381) 1(-0.645,-2.348) 1(-0.645,-2.315) 1(-0.612,-2.282) 1(-0.612,-2.249) 1(-0.612,-2.216) 1(-0.612,-2.183) 1(-0.612,1.455) 1(-0.612,1.488) 1(-0.612,1.522) 1(-0.579,-2.15) 1(-0.579,-2.117) 1(-0.579,-2.084) 1(-0.579,-2.051) 1(-0.579,-2.018) 1(-0.579,1.555) 1(-0.579,1.588) 1(-0.546,-1.985) 1(-0.546,-1.951) 1(-0.546,-1.918) 1(-0.546,-1.885) 1(-0.546,-1.852) 1(-0.546,1.621) 1(-0.513,-1.819) 1(-0.513,-1.786) 1(-0.513,-1.753) 1(-0.513,-1.72) 1(-0.513,-1.687) 1(-0.513,1.654) 1(-0.513,1.687) 1(-0.48,-1.654) 1(-0.48,-1.621) 1(-0.48,1.72) 1(-0.48,1.753) 1(-0.447,1.786) 1(-0.413,1.819) 1(-0.413,1.852) 1(-0.38,1.885) 1(-0.38,1.918) 1(-0.347,1.455) 1(-0.347,1.952) 1(-0.314,1.985) 1(-0.314,2.018) 1(-0.281,2.051) 1(-0.281,2.084) 1(-0.248,2.117) 1(-0.215,2.15) 1(-0.215,2.183) 1(-0.182,2.216) 1(-0.182,2.249) 1(-0.149,1.488) 1(-0.149,2.282) 1(-0.116,2.315) 1(-0.116,2.348) 1(-0.083,2.381) 1(-0.083,2.415) 1(-0.05,2.448) 1(-0.017,-2.448) 1(-0.017,-2.415) 1(-0.017,-2.381) 1(-0.017,-2.348) 1(-0.017,-2.315) 1(-0.017,-2.282) 1(-0.017,-2.249) 1(-0.017,-2.216) 1(-0.017,-2.183) 1(-0.017,-2.15) 1(-0.017,-2.117) 1(-0.017,-2.084) 1(-0.017,-2.051) 1(-0.017,-2.018) 1(-0.017,-1.588) 1(-0.017,1.522) 1(-0.017,2.481) 1(-0.017,2.514) 1(0.017,-2.547) 1(0.017,-2.514) 1(0.017,-2.481) 1(0.017,-1.985) 1(0.017,-1.951) 1(0.017,-1.918) 1(0.017,-1.885) 1(0.017,-1.555) 1(0.017,-1.522) 1(0.017,-1.488) 1(0.017,-1.455) 1(0.017,2.547) 1(0.017,2.58) 1(0.05,-2.613) 1(0.05,-2.58) 1(0.05,-1.852) 1(0.05,-1.819) 1(0.05,-1.422) 1(0.05,-1.389) 1(0.05,1.555) 1(0.05,2.613) 1(0.083,-2.646) 1(0.083,-1.786) 1(0.083,-1.753) 1(0.083,2.646) 1(0.083,2.679) 1(0.116,-2.712) 1(0.116,-2.679) 1(0.116,-1.72) 1(0.116,-1.687) 1(0.116,1.588) 1(0.116,2.712) 1(0.116,2.745) 1(0.149,-2.745) 1(0.149,-1.654) 1(0.149,0.628) 1(0.149,0.662) 1(0.149,2.778) 1(0.182,-2.778) 1(0.182,-1.621) 1(0.182,-1.588) 1(0.182,0.529) 1(0.182,0.562) 1(0.182,0.595) 1(0.182,1.621) 1(0.182,2.811) 1(0.182,2.845) 1(0.215,-1.555) 1(0.215,0.463) 1(0.215,0.496) 1(0.215,2.878) 1(0.215,2.911) 1(0.248,-2.811) 1(0.248,-2.448) 1(0.248,-2.415) 1(0.248,-2.381) 1(0.248,-2.348) 1(0.248,-2.315) 1(0.248,-2.282) 1(0.248,-2.249) 1(0.248,-2.216) 1(0.248,-2.183) 1(0.248,-2.15) 1(0.248,-2.117) 1(0.248,-2.084) 1(0.248,-2.051) 1(0.248,-2.018) 1(0.248,0.364) 1(0.248,0.397) 1(0.248,0.43) 1(0.248,1.654) 1(0.281,-2.845) 1(0.281,-2.514) 1(0.281,-2.481) 1(0.281,-1.985) 1(0.281,-1.951) 1(0.281,-1.918) 1(0.281,-1.522) 1(0.281,0.265) 1(0.281,0.298) 1(0.281,0.331) 1(0.281,1.687) 1(0.314,-2.547) 1(0.314,-1.885) 1(0.314,-1.852) 1(0.314,-1.488) 1(0.314,0.198) 1(0.314,0.232) 1(0.314,0.695) 1(0.314,1.72) 1(0.347,-2.878) 1(0.347,-2.58) 1(0.347,-1.819) 1(0.347,-1.786) 1(0.347,-1.455) 1(0.347,0.099) 1(0.347,0.132) 1(0.347,0.165) 1(0.347,1.753) 1(0.38,-2.613) 1(0.38,-1.753) 1(0.38,0) 1(0.38,0.033) 1(0.38,0.066) 1(0.413,-2.646) 1(0.413,-1.72) 1(0.413,-1.422) 1(0.413,-0.099) 1(0.413,-0.066) 1(0.413,-0.033) 1(0.413,1.786) 1(0.447,-1.687) 1(0.447,-0.165) 1(0.447,-0.132) 1(0.447,1.819) 1(0.48,-2.911) 1(0.48,-2.679) 1(0.48,-1.654) 1(0.48,-1.389) 1(0.48,-0.265) 1(0.48,-0.232) 1(0.48,-0.198) 1(0.48,0.728) 1(0.48,1.852) 1(0.513,-1.621) 1(0.513,-0.364) 1(0.513,-0.331) 1(0.513,-0.298) 1(0.513,1.885) 1(0.513,1.918) 1(0.546,-0.43) 1(0.546,-0.397) 1(0.546,1.952) 1(0.579,-1.588) 1(0.579,-1.356) 1(0.579,-0.529) 1(0.579,-0.496) 1(0.579,-0.463) 1(0.579,0.761) 1(0.579,1.985) 1(0.612,-2.712) 1(0.612,-0.529) 1(0.612,2.018) 1(0.645,-1.555) 1(0.645,-0.496) 1(0.645,2.051) 1(0.645,2.084) 1(0.678,-0.463) 1(0.678,-0.43) 1(0.678,0.794) 1(0.678,2.117) 1(0.711,-2.712) 1(0.711,-0.397) 1(0.711,2.15) 1(0.744,-0.364) 1(0.744,-0.331) 1(0.744,0.827) 1(0.744,2.183) 1(0.744,2.216) 1(0.777,-0.298) 1(0.777,-0.265) 1(0.777,2.249) 1(0.777,2.282) 1(0.81,-2.911) 1(0.81,-2.679) 1(0.81,-0.232) 1(0.81,0.86) 1(0.81,2.315) 1(0.843,-0.198) 1(0.843,-0.165) 1(0.843,2.348) 1(0.843,2.381) 1(0.877,-2.646) 1(0.877,-0.132) 1(0.877,-0.099) 1(0.877,0.893) 1(0.877,2.415) 1(0.877,2.448) 1(0.91,-2.878) 1(0.91,-1.555) 1(0.91,-0.066) 1(0.91,2.481) 1(0.943,-2.613) 1(0.943,-0.033) 1(0.943,0) 1(0.943,0.926) 1(0.943,2.514) 1(0.943,2.547) 1(0.976,-2.58) 1(0.976,-1.588) 1(0.976,-1.356) 1(0.976,0.033) 1(0.976,0.066) 1(0.976,0.959) 1(0.976,2.58) 1(0.976,2.613) 1(1.009,-2.845) 1(1.009,-2.547) 1(1.009,0.099) 1(1.009,2.646) 1(1.009,2.679) 1(1.042,-2.811) 1(1.042,-2.514) 1(1.042,-2.481) 1(1.042,-1.621) 1(1.042,0.132) 1(1.042,0.165) 1(1.042,0.992) 1(1.042,2.712) 1(1.042,2.745) 1(1.075,-2.448) 1(1.075,-2.415) 1(1.075,-1.654) 1(1.075,-1.389) 1(1.075,0.198) 1(1.075,1.025) 1(1.075,2.778) 1(1.075,2.811) 1(1.108,-2.778) 1(1.108,-2.381) 1(1.108,-2.348) 1(1.108,-1.72) 1(1.108,-1.687) 1(1.108,0.232) 1(1.108,0.265) 1(1.108,2.845) 1(1.108,2.878) 1(1.141,-2.745) 1(1.141,-2.315) 1(1.141,-2.282) 1(1.141,-2.249) 1(1.141,-2.216) 1(1.141,-1.819) 1(1.141,-1.786) 1(1.141,-1.753) 1(1.141,-1.422) 1(1.141,0.298) 1(1.141,0.331) 1(1.141,1.058) 1(1.174,-2.712) 1(1.174,-2.183) 1(1.174,-2.15) 1(1.174,-2.117) 1(1.174,-2.084) 1(1.174,-2.051) 1(1.174,-2.018) 1(1.174,-1.985) 1(1.174,-1.951) 1(1.174,-1.918) 1(1.174,-1.885) 1(1.174,-1.852) 1(1.174,0.364) 1(1.174,1.092) 1(1.207,-2.679) 1(1.207,-1.455) 1(1.207,0.397) 1(1.207,0.43) 1(1.207,1.125) 1(1.24,-2.646) 1(1.24,-1.488) 1(1.24,0.463) 1(1.24,0.496) 1(1.24,1.158) 1(1.273,-2.613) 1(1.273,-2.58) 1(1.273,-1.522) 1(1.273,0.529) 1(1.273,1.191) 1(1.307,-2.547) 1(1.307,-1.588) 1(1.307,-1.555) 1(1.307,0.562) 1(1.307,0.595) 1(1.307,1.224) 1(1.34,-2.514) 1(1.34,-2.481) 1(1.34,-1.621) 1(1.34,0.628) 1(1.34,0.662) 1(1.34,1.257) 1(1.373,-2.448) 1(1.373,-2.415) 1(1.373,-2.381) 1(1.373,-1.687) 1(1.373,-1.654) 1(1.373,0.695) 1(1.373,1.29) 1(1.406,-2.348) 1(1.406,-2.315) 1(1.406,-2.282) 1(1.406,-2.249) 1(1.406,-2.216) 1(1.406,-1.819) 1(1.406,-1.786) 1(1.406,-1.753) 1(1.406,-1.72) 1(1.406,0.728) 1(1.406,0.761) 1(1.406,1.323) 1(1.406,1.356) 1(1.439,-2.183) 1(1.439,-2.15) 1(1.439,-2.117) 1(1.439,-2.084) 1(1.439,-2.051) 1(1.439,-2.018) 1(1.439,-1.985) 1(1.439,-1.951) 1(1.439,-1.918) 1(1.439,-1.885) 1(1.439,-1.852) 1(1.439,0.794) 1(1.439,1.389) 1(1.472,0.827) 1(1.472,0.86) 1(1.472,1.422) 1(1.505,0.893) 1(1.505,0.926) 1(1.505,1.455) 1(1.505,1.488) 1(1.538,0.959) 1(1.538,1.522) 1(1.571,0.992) 1(1.571,1.025) 1(1.571,1.555) 1(1.571,1.588) 1(1.604,-2.448) 1(1.604,-2.415) 1(1.604,-2.381) 1(1.604,-2.348) 1(1.604,-2.315) 1(1.604,-2.282) 1(1.604,-2.249) 1(1.604,-2.216) 1(1.604,-2.183) 1(1.604,-2.15) 1(1.604,-2.117) 1(1.604,-2.084) 1(1.604,-2.051) 1(1.604,-2.018) 1(1.604,1.058) 1(1.604,1.092) 1(1.604,1.621) 1(1.637,-2.547) 1(1.637,-2.514) 1(1.637,-2.481) 1(1.637,-1.985) 1(1.637,-1.951) 1(1.637,-1.918) 1(1.637,-1.885) 1(1.637,1.125) 1(1.637,1.654) 1(1.637,1.687) 1(1.67,-2.613) 1(1.67,-2.58) 1(1.67,-1.852) 1(1.67,-1.819) 1(1.67,1.158) 1(1.67,1.191) 1(1.67,1.72) 1(1.67,1.753) 1(1.703,-2.679) 1(1.703,-2.646) 1(1.703,-1.786) 1(1.703,-1.753) 1(1.703,1.224) 1(1.703,1.786) 1(1.703,1.819) 1(1.737,-2.712) 1(1.737,-1.72) 1(1.737,-1.687) 1(1.737,1.257) 1(1.737,1.29) 1(1.737,1.852) 1(1.77,-2.745) 1(1.77,-1.654) 1(1.77,1.323) 1(1.77,1.356) 1(1.77,1.885) 1(1.77,1.918) 1(1.803,-2.778) 1(1.803,-1.621) 1(1.803,-1.588) 1(1.803,1.389) 1(1.803,1.952) 1(1.803,1.985) 1(1.836,-2.249) 1(1.836,-1.555) 1(1.836,1.422) 1(1.836,1.455) 1(1.836,2.018) 1(1.869,-2.811) 1(1.869,-2.448) 1(1.869,-2.415) 1(1.869,-2.381) 1(1.869,-2.348) 1(1.869,-2.315) 1(1.869,-2.282) 1(1.869,-2.216) 1(1.869,-2.183) 1(1.869,-2.15) 1(1.869,-2.117) 1(1.869,-2.084) 1(1.869,-2.051) 1(1.869,-2.018) 1(1.869,-1.522) 1(1.869,1.488) 1(1.869,2.051) 1(1.869,2.084) 1(1.902,-2.845) 1(1.902,-2.514) 1(1.902,-2.481) 1(1.902,-1.985) 1(1.902,-1.951) 1(1.902,-1.918) 1(1.902,1.522) 1(1.902,2.117) 1(1.902,2.15) 1(1.935,-2.547) 1(1.935,-1.885) 1(1.935,-1.852) 1(1.935,-1.488) 1(1.935,1.555) 1(1.935,1.588) 1(1.935,2.183) 1(1.968,-2.878) 1(1.968,-2.613) 1(1.968,-2.58) 1(1.968,-1.819) 1(1.968,-1.786) 1(1.968,-1.455) 1(1.968,-0.628) 1(1.968,1.621) 1(1.968,2.216) 1(1.968,2.249) 1(2.001,-1.753) 1(2.001,-0.595) 1(2.001,-0.562) 1(2.001,1.654) 1(2.001,2.282) 1(2.001,2.315) 1(2.034,-2.646) 1(2.034,-1.72) 1(2.034,-1.422) 1(2.034,-0.529) 1(2.034,-0.496) 1(2.034,1.687) 1(2.034,1.72) 1(2.034,2.348) 1(2.067,-1.687) 1(2.067,-0.463) 1(2.067,1.753) 1(2.067,2.381) 1(2.067,2.415) 1(2.1,-2.911) 1(2.1,-2.679) 1(2.1,-1.654) 1(2.1,-1.389) 1(2.1,-0.43) 1(2.1,-0.397) 1(2.1,1.786) 1(2.1,2.448) 1(2.1,2.481) 1(2.133,-1.621) 1(2.133,-0.364) 1(2.133,-0.331) 1(2.133,1.819) 1(2.133,2.514) 1(2.166,-0.298) 1(2.166,-0.265) 1(2.166,1.852) 1(2.166,2.547) 1(2.166,2.58) 1(2.2,-1.588) 1(2.2,-1.356) 1(2.2,-0.232) 1(2.2,1.885) 1(2.2,1.918) 1(2.2,2.613) 1(2.2,2.646) 1(2.233,-2.712) 1(2.233,-0.198) 1(2.233,-0.165) 1(2.233,1.952) 1(2.233,2.679) 1(2.266,-1.555) 1(2.266,-0.132) 1(2.266,-0.099) 1(2.266,1.985) 1(2.266,2.712) 1(2.266,2.745) 1(2.299,-0.066) 1(2.299,2.018) 1(2.299,2.778) 1(2.299,2.811) 1(2.299,2.911) 1(2.332,-2.712) 1(2.332,-2.282) 1(2.332,-2.249) 1(2.332,-2.216) 1(2.332,-2.183) 1(2.332,-2.15) 1(2.332,-0.033) 1(2.332,0) 1(2.332,2.051) 1(2.332,2.845) 1(2.365,-2.911) 1(2.365,-2.117) 1(2.365,0.033) 1(2.365,0.066) 1(2.365,2.084) 1(2.365,2.878) 1(2.365,2.911) 1(2.398,0.099) 1(2.398,2.117) 1(2.431,0.132) 1(2.431,0.165) 1(2.431,2.15) 1(2.464,-2.878) 1(2.464,-2.679) 1(2.464,0.198) 1(2.464,0.232) 1(2.464,2.183) 1(2.497,-2.646) 1(2.497,0.265) 1(2.497,2.216) 1(2.53,-2.845) 1(2.53,-1.555) 1(2.53,0.298) 1(2.53,0.331) 1(2.563,-2.811) 1(2.563,-2.613) 1(2.563,0.364) 1(2.563,0.397) 1(2.563,2.249) 1(2.596,-2.58) 1(2.596,0.43) 1(2.596,2.282) 1(2.63,-2.778) 1(2.63,-2.547) 1(2.63,-2.514) 1(2.63,-1.588) 1(2.63,-1.356) 1(2.63,0.463) 1(2.63,0.496) 1(2.63,2.315) 1(2.663,-2.878) 1(2.663,-2.845) 1(2.663,-2.811) 1(2.663,-2.778) 1(2.663,-2.481) 1(2.663,-2.448) 1(2.663,-1.621) 1(2.663,0.529) 1(2.663,0.562) 1(2.663,2.348) 1(2.696,-2.415) 1(2.696,-2.381) 1(2.696,-1.654) 1(2.696,0.595) 1(2.696,2.381) 1(2.729,-2.348) 1(2.729,-2.315) 1(2.729,-1.72) 1(2.729,-1.687) 1(2.729,-1.389) 1(2.729,0.628) 1(2.729,0.662) 1(2.762,-1.819) 1(2.762,-1.786) 1(2.762,-1.753) 1(2.762,0.695) 1(2.762,0.728) 1(2.762,2.415) 1(2.795,-1.422) 1(2.795,0.761) 1(2.795,2.448) 1(2.828,-2.878) 1(2.828,-2.845) 1(2.828,0.794) 1(2.828,0.827) 1(2.861,-2.811) 1(2.861,-2.778) 1(2.861,-2.745) 1(2.861,-2.712) 1(2.861,-1.455) 1(2.861,-0.628) 1(2.861,0.86) 1(2.861,0.893) 1(2.861,2.481) 1(2.894,-2.679) 1(2.894,-2.646) 1(2.894,-2.613) 1(2.894,-2.58) 1(2.894,-2.547) 1(2.894,-1.488) 1(2.894,-0.595) 1(2.894,-0.562) 1(2.894,0.926) 1(2.894,2.514) 1(2.927,-2.514) 1(2.927,-2.481) 1(2.927,-2.448) 1(2.927,-2.415) 1(2.927,-2.381) 1(2.927,-1.555) 1(2.927,-1.522) 1(2.927,-0.529) 1(2.927,-0.496) 1(2.927,0.959) 1(2.927,0.992) 1(2.96,-2.348) 1(2.96,-2.315) 1(2.96,-2.282) 1(2.96,-2.249) 1(2.96,-2.216) 1(2.96,-1.588) 1(2.96,-0.463) 1(2.96,1.025) 1(2.96,1.058) 1(2.96,2.547) 1(2.993,-2.183) 1(2.993,-2.15) 1(2.993,-2.117) 1(2.993,-1.687) 1(2.993,-1.654) 1(2.993,-1.621) 1(2.993,-0.43) 1(2.993,-0.397) 1(2.993,1.092) 1(2.993,2.58) 1(3.026,-1.819) 1(3.026,-1.786) 1(3.026,-1.753) 1(3.026,-1.72) 1(3.026,-0.364) 1(3.026,-0.331) 1(3.026,1.125) 1(3.026,1.158) 1(3.06,-0.298) 1(3.06,1.191) 1(3.06,1.224) 1(3.06,2.613) 1(3.093,-0.265) 1(3.093,-0.232) 1(3.093,1.257) 1(3.126,-0.198) 1(3.126,-0.165) 1(3.126,1.29) 1(3.126,1.323) 1(3.126,2.646) 1(3.159,-2.878) 1(3.159,-2.845) 1(3.159,-2.811) 1(3.159,-2.778) 1(3.159,-0.132) 1(3.159,1.356) 1(3.192,-2.745) 1(3.192,-2.712) 1(3.192,-2.679) 1(3.192,-2.646) 1(3.192,-2.613) 1(3.192,-0.099) 1(3.192,-0.066) 1(3.192,1.389) 1(3.192,2.679) 1(3.225,-2.58) 1(3.225,-2.547) 1(3.225,-2.514) 1(3.225,-2.481) 1(3.225,-2.448) 1(3.225,-0.033) 1(3.225,0) 1(3.225,1.422) 1(3.258,-2.415) 1(3.258,-2.381) 1(3.258,-2.348) 1(3.258,-2.315) 1(3.258,-2.282) 1(3.258,0.033) 1(3.258,2.712) 1(3.291,-2.249) 1(3.291,-2.216) 1(3.291,-2.183) 1(3.291,-2.15) 1(3.291,-2.117) 1(3.291,0.066) 1(3.291,0.099) 1(3.291,1.455) 1(3.324,-2.084) 1(3.324,-2.051) 1(3.324,-2.018) 1(3.324,-1.985) 1(3.324,-1.951) 1(3.324,0.132) 1(3.324,0.165) 1(3.324,2.745) 1(3.357,-1.918) 1(3.357,-1.885) 1(3.357,-1.852) 1(3.357,-1.819) 1(3.357,0.198) 1(3.39,-1.786) 1(3.39,-1.753) 1(3.39,-1.72) 1(3.39,-1.687) 1(3.39,-1.654) 1(3.39,0.232) 1(3.39,0.265) 1(3.39,2.778) 1(3.423,-2.878) 1(3.423,-2.845) 1(3.423,-2.811) 1(3.423,-2.778) 1(3.423,-1.621) 1(3.423,-1.588) 1(3.423,-1.555) 1(3.423,-1.522) 1(3.423,-1.488) 1(3.423,0.298) 1(3.423,0.331) 1(3.456,-2.745) 1(3.456,-2.712) 1(3.456,-2.679) 1(3.456,-2.646) 1(3.456,-2.613) 1(3.456,-1.455) 1(3.456,-1.422) 1(3.456,-1.389) 1(3.456,0.364) 1(3.456,0.397) 1(3.49,-2.58) 1(3.49,-2.547) 1(3.49,-2.514) 1(3.49,-2.481) 1(3.49,-2.448) 1(3.49,0.43) 1(3.49,2.811) 1(3.523,-2.415) 1(3.523,-2.381) 1(3.523,-2.348) 1(3.523,-2.315) 1(3.523,-2.282) 1(3.523,0.463) 1(3.523,0.496) 1(3.556,0.529) 1(3.556,0.562) 1(3.589,-2.051) 1(3.589,-2.018) 1(3.589,-1.985) 1(3.589,-1.951) 1(3.589,0.595) 1(3.622,-1.918) 1(3.622,-1.885) 1(3.622,-1.852) 1(3.622,-1.819) 1(3.622,-1.786) 1(3.622,0.628) 1(3.622,0.662) 1(3.622,2.845) 1(3.655,-1.753) 1(3.655,-1.72) 1(3.655,-1.687) 1(3.655,-1.654) 1(3.655,-1.621) 1(3.655,0.695) 1(3.655,0.728) 1(3.688,-1.588) 1(3.688,0.761) 1(3.721,0.794) 1(3.721,0.827) 1(3.754,0.86) 1(3.754,0.893) 1(3.754,2.878) 1(3.787,0.926) 1(3.82,0.959) 1(3.82,0.992) 1(3.853,1.025) 1(3.853,1.058) 1(3.886,1.092) 1(3.92,1.125) 1(3.92,1.158) 1(3.953,1.191) 1(3.953,1.224) 1(3.986,1.257) 1(4.019,1.29) 1(4.019,1.323) 1(4.052,-2.282) 1(4.052,1.356) 1(4.052,1.389) 1(4.085,-2.051) 1(4.085,1.422) 1(4.085,1.455) 1(4.118,-2.878) 1(4.118,-2.845) 1(4.118,-2.811) 1(4.118,-2.778) 1(4.118,-2.745) 1(4.118,-2.712) 1(4.118,-2.679) 1(4.118,-2.646) 1(4.118,-2.613) 1(4.118,-2.348) 1(4.118,-2.315) 1(4.151,-2.58) 1(4.151,-2.547) 1(4.151,-2.514) 1(4.151,-2.481) 1(4.151,-2.448) 1(4.151,-2.415) 1(4.151,-2.381) 1(4.184,-2.018) 1(4.184,-1.588) 1(4.25,-2.183) 1(4.25,-1.985) 1(4.25,-1.621) 1(4.283,-1.951) 1(4.283,-1.918) 1(4.283,-1.654) 1(4.316,-2.216) 1(4.316,-2.15) 1(4.316,-1.885) 1(4.316,-1.852) 1(4.316,-1.819) 1(4.316,-1.786) 1(4.316,-1.753) 1(4.316,-1.72) 1(4.316,-1.687) 1(4.316,-1.389) 1(4.316,-0.628) 1(4.316,-0.595) 1(4.35,-2.249) 1(4.35,-0.562) 1(4.383,-2.845) 1(4.383,-2.811) 1(4.383,-2.778) 1(4.383,-2.745) 1(4.383,-2.712) 1(4.383,-2.679) 1(4.383,-2.646) 1(4.383,-2.613) 1(4.383,-2.58) 1(4.383,-2.547) 1(4.383,-2.348) 1(4.383,-2.315) 1(4.383,-2.282) 1(4.383,-2.117) 1(4.383,-0.529) 1(4.383,-0.496) 1(4.416,-2.878) 1(4.416,-2.514) 1(4.416,-2.481) 1(4.416,-2.448) 1(4.416,-2.415) 1(4.416,-2.381) 1(4.416,-1.422) 1(4.416,-0.463) 1(4.416,-0.43) 1(4.449,-2.084) 1(4.449,-1.455) 1(4.449,-0.397) 1(4.482,-2.051) 1(4.482,-1.488) 1(4.482,-0.364) 1(4.482,-0.331) 1(4.515,-2.878) 1(4.515,-2.018) 1(4.515,-1.985) 1(4.515,-1.522) 1(4.515,-0.298) 1(4.515,-0.265) 1(4.548,-2.845) 1(4.548,-1.951) 1(4.548,-1.918) 1(4.548,-1.588) 1(4.548,-1.555) 1(4.548,-0.628) 1(4.548,-0.232) 1(4.581,-2.811) 1(4.581,-2.778) 1(4.581,-1.885) 1(4.581,-1.852) 1(4.581,-1.819) 1(4.581,-1.786) 1(4.581,-1.753) 1(4.581,-1.72) 1(4.581,-1.687) 1(4.581,-1.654) 1(4.581,-1.621) 1(4.581,-0.595) 1(4.581,-0.562) 1(4.581,-0.198) 1(4.581,-0.165) 1(4.614,-2.745) 1(4.614,-2.712) 1(4.614,-0.529) 1(4.614,-0.496) 1(4.614,-0.132) 1(4.614,-0.099) 1(4.647,-2.679) 1(4.647,-0.463) 1(4.647,-0.066) 1(4.68,-2.646) 1(4.68,-2.613) 1(4.68,-0.43) 1(4.68,-0.397) 1(4.68,-0.033) 1(4.68,0) 1(4.713,-2.58) 1(4.713,-2.547) 1(4.713,-0.364) 1(4.713,-0.331) 1(4.713,0.033) 1(4.713,0.066) 1(4.746,-2.514) 1(4.746,-2.481) 1(4.746,-0.298) 1(4.746,0.099) 1(4.78,-2.448) 1(4.78,-0.265) 1(4.78,-0.232) 1(4.78,0.132) 1(4.78,0.165) 1(4.813,-2.878) 1(4.813,-2.845) 1(4.813,-2.415) 1(4.813,-2.381) 1(4.813,-0.198) 1(4.813,-0.165) 1(4.813,0.198) 1(4.813,0.232) 1(4.846,-2.811) 1(4.846,-2.348) 1(4.846,-2.315) 1(4.846,-0.132) 1(4.846,0.265) 1(4.879,-2.778) 1(4.879,-2.745) 1(4.879,-2.282) 1(4.879,-0.099) 1(4.879,-0.066) 1(4.879,0.298) 1(4.879,0.331) 1(4.912,-2.712) 1(4.912,-2.679) 1(4.912,-2.249) 1(4.912,-2.216) 1(4.912,-0.033) 1(4.912,0) 1(4.912,0.364) 1(4.912,0.397) 1(4.945,-2.646) 1(4.945,-2.613) 1(4.945,-2.183) 1(4.945,-2.15) 1(4.945,0.033) 1(4.945,0.43) 1(4.978,-2.58) 1(4.978,-2.117) 1(4.978,0.066) 1(4.978,0.099) 1(4.978,0.463) 1(4.978,0.496) 1(5.011,-2.547) 1(5.011,-2.514) 1(5.011,-2.084) 1(5.011,-2.051) 1(5.011,0.132) 1(5.011,0.165) 1(5.011,0.529) 1(5.011,0.562) 1(5.044,-2.018) 1(5.044,-1.985) 1(5.044,0.198) 1(5.044,0.595) 1(5.077,-1.951) 1(5.077,0.232) 1(5.077,0.265) 1(5.077,0.628) 1(5.077,0.662) 1(5.11,-1.918) 1(5.11,-1.885) 1(5.11,0.298) 1(5.11,0.331) 1(5.11,0.695) 1(5.11,0.728) 1(5.143,-2.282) 1(5.143,-1.852) 1(5.143,-1.819) 1(5.143,0.364) 1(5.143,0.761) 1(5.176,-2.249) 1(5.176,-2.216) 1(5.176,-1.786) 1(5.176,0.397) 1(5.176,0.43) 1(5.176,0.794) 1(5.176,0.827) 1(5.21,-2.183) 1(5.21,-2.15) 1(5.21,-1.753) 1(5.21,-1.72) 1(5.21,0.463) 1(5.21,0.496) 1(5.21,0.86) 1(5.21,0.893) 1(5.243,-2.117) 1(5.243,-2.084) 1(5.243,-1.687) 1(5.243,-1.654) 1(5.243,0.529) 1(5.243,0.926) 1(5.276,-2.051) 1(5.276,-2.018) 1(5.276,-1.621) 1(5.276,-1.588) 1(5.276,0.562) 1(5.276,0.595) 1(5.276,0.959) 1(5.276,0.992) 1(5.309,-1.985) 1(5.309,-1.555) 1(5.309,0.628) 1(5.309,0.662) 1(5.309,1.025) 1(5.309,1.058) 1(5.342,-1.951) 1(5.342,-1.918) 1(5.342,-1.522) 1(5.342,-1.488) 1(5.342,0.695) 1(5.342,1.092) 1(5.375,-1.885) 1(5.375,-1.852) 1(5.375,-1.455) 1(5.375,-1.422) 1(5.375,0.728) 1(5.375,0.761) 1(5.375,1.125) 1(5.375,1.158) 1(5.408,-1.819) 1(5.408,-1.786) 1(5.408,-1.389) 1(5.408,0.794) 1(5.408,0.827) 1(5.408,1.191) 1(5.408,1.224) 1(5.441,-1.753) 1(5.441,-1.72) 1(5.441,0.86) 1(5.441,1.257) 1(5.474,-1.687) 1(5.474,0.893) 1(5.474,0.926) 1(5.474,1.29) 1(5.474,1.323) 1(5.507,-1.687) 1(5.507,0.959) 1(5.507,0.992) 1(5.507,1.356) 1(5.507,1.389) 1(5.54,-1.918) 1(5.54,-1.885) 1(5.54,-1.852) 1(5.54,-1.819) 1(5.54,-1.786) 1(5.54,-1.753) 1(5.54,-1.72) 1(5.54,1.025) 1(5.54,1.058) 1(5.54,1.422) 1(5.573,-2.15) 1(5.573,-2.117) 1(5.573,-2.084) 1(5.573,-2.051) 1(5.573,-2.018) 1(5.573,-1.985) 1(5.573,-1.951) 1(5.573,1.092) 1(5.573,1.455) 1(5.573,1.488) 1(5.606,-2.282) 1(5.606,-2.249) 1(5.606,-2.216) 1(5.606,-2.183) 1(5.606,1.125) 1(5.606,1.158) 1(5.606,1.522) 1(5.606,1.555) 1(5.64,-2.613) 1(5.64,-2.58) 1(5.64,-2.547) 1(5.64,-2.514) 1(5.64,1.191) 1(5.64,1.224) 1(5.64,1.588) 1(5.673,-2.811) 1(5.673,-2.778) 1(5.673,-2.745) 1(5.673,-2.712) 1(5.673,-2.679) 1(5.673,-2.646) 1(5.673,1.257) 1(5.673,1.621) 1(5.673,1.654) 1(5.706,-2.878) 1(5.706,-2.845) 1(5.706,-1.488) 1(5.706,-1.455) 1(5.706,-1.422) 1(5.706,-1.389) 1(5.706,1.29) 1(5.706,1.323) 1(5.706,1.687) 1(5.706,1.72) 1(5.739,-1.687) 1(5.739,-1.654) 1(5.739,-1.621) 1(5.739,-1.588) 1(5.739,-1.555) 1(5.739,-1.522) 1(5.739,1.356) 1(5.739,1.389) 1(5.739,1.753) 1(5.772,-1.885) 1(5.772,-1.852) 1(5.772,-1.819) 1(5.772,-1.786) 1(5.772,-1.753) 1(5.772,-1.72) 1(5.772,-0.628) 1(5.772,-0.595) 1(5.772,1.422) 1(5.772,1.786) 1(5.772,1.819) 1(5.805,-2.051) 1(5.805,-2.018) 1(5.805,-1.985) 1(5.805,-1.951) 1(5.805,-1.918) 1(5.805,-0.562) 1(5.805,-0.529) 1(5.805,1.455) 1(5.805,1.488) 1(5.805,1.852) 1(5.805,1.885) 1(5.838,-2.249) 1(5.838,-2.216) 1(5.838,-2.183) 1(5.838,-2.15) 1(5.838,-2.117) 1(5.838,-2.084) 1(5.838,-0.496) 1(5.838,1.522) 1(5.838,1.555) 1(5.838,1.918) 1(5.871,-2.448) 1(5.871,-2.415) 1(5.871,-2.381) 1(5.871,-2.348) 1(5.871,-2.315) 1(5.871,-2.282) 1(5.871,-0.463) 1(5.871,-0.43) 1(5.871,1.588) 1(5.871,1.952) 1(5.871,1.985) 1(5.904,-2.646) 1(5.904,-2.613) 1(5.904,-2.58) 1(5.904,-2.547) 1(5.904,-2.514) 1(5.904,-2.481) 1(5.904,-0.397) 1(5.904,-0.364) 1(5.904,1.621) 1(5.904,1.654) 1(5.904,2.018) 1(5.904,2.051) 1(5.937,-2.845) 1(5.937,-2.811) 1(5.937,-2.778) 1(5.937,-2.745) 1(5.937,-2.712) 1(5.937,-2.679) 1(5.937,-0.331) 1(5.937,-0.298) 1(5.937,1.687) 1(5.937,1.72) 1(5.937,2.084) 1(5.937,2.117) 1(5.97,-2.878) 1(5.97,-0.265) 1(5.97,1.753) 1(5.97,2.15) 1(6.003,-0.232) 1(6.003,-0.198) 1(6.003,1.786) 1(6.003,1.819) 1(6.003,2.183) 1(6.003,2.216) 1(6.036,-0.165) 1(6.036,-0.132) 1(6.036,1.852) 1(6.036,1.885) 1(6.036,2.249) 1(6.036,2.282) 1(6.07,-0.099) 1(6.07,1.918) 1(6.07,2.315) 1(6.103,-2.878) 1(6.103,-0.066) 1(6.103,-0.033) 1(6.103,1.952) 1(6.103,1.985) 1(6.103,2.348) 1(6.103,2.381) 1(6.136,-2.845) 1(6.136,-2.811) 1(6.136,-2.778) 1(6.136,-2.745) 1(6.136,0) 1(6.136,0.033) 1(6.136,2.018) 1(6.136,2.051) 1(6.136,2.415) 1(6.136,2.448) 1(6.169,-2.712) 1(6.169,-2.679) 1(6.169,-2.646) 1(6.169,-2.613) 1(6.169,-2.58) 1(6.169,0.066) 1(6.169,2.084) 1(6.169,2.481) 1(6.202,-2.547) 1(6.202,-2.514) 1(6.202,-2.481) 1(6.202,-2.448) 1(6.202,-2.415) 1(6.202,0.099) 1(6.202,0.132) 1(6.202,2.117) 1(6.202,2.15) 1(6.202,2.514) 1(6.202,2.547) 1(6.235,-2.381) 1(6.235,-2.348) 1(6.235,-2.315) 1(6.235,-2.282) 1(6.235,-2.249) 1(6.235,0.165) 1(6.235,0.198) 1(6.235,2.183) 1(6.235,2.216) 1(6.235,2.58) 1(6.235,2.613) 1(6.268,-2.216) 1(6.268,-2.183) 1(6.268,-2.15) 1(6.268,-2.117) 1(6.268,-2.084) 1(6.268,0.232) 1(6.268,2.249) 1(6.268,2.646) 1(6.301,-2.051) 1(6.301,-2.018) 1(6.301,-1.985) 1(6.301,-1.951) 1(6.301,-1.918) 1(6.301,0.265) 1(6.301,0.298) 1(6.301,2.282) 1(6.301,2.315) 1(6.301,2.679) 1(6.301,2.712) 1(6.334,-1.885) 1(6.334,-1.852) 1(6.334,-1.819) 1(6.334,-1.786) 1(6.334,-1.753) 1(6.334,0.331) 1(6.334,0.364) 1(6.334,2.348) 1(6.334,2.381) 1(6.334,2.745) 1(6.334,2.778) 1(6.367,-2.878) 1(6.367,-2.845) 1(6.367,-1.72) 1(6.367,-1.687) 1(6.367,-1.654) 1(6.367,-1.621) 1(6.367,-1.588) 1(6.367,0.397) 1(6.367,2.415) 1(6.367,2.811) 1(6.4,-2.811) 1(6.4,-2.778) 1(6.4,-2.745) 1(6.4,-2.712) 1(6.4,-1.555) 1(6.4,-1.522) 1(6.4,-1.488) 1(6.4,-1.455) 1(6.4,-1.422) 1(6.4,0.43) 1(6.4,0.463) 1(6.4,2.448) 1(6.4,2.481) 1(6.4,2.845) 1(6.4,2.878) 1(6.433,-2.679) 1(6.433,-2.646) 1(6.433,-2.613) 1(6.433,-2.58) 1(6.433,-2.547) 1(6.433,-1.389) 1(6.433,0.496) 1(6.433,0.529) 1(6.433,2.514) 1(6.433,2.547) 1(6.466,-2.514) 1(6.466,-2.481) 1(6.466,-2.448) 1(6.466,-2.415) 1(6.466,-2.381) 1(6.466,0.562) 1(6.466,2.58) 1(6.499,-2.348) 1(6.499,-2.315) 1(6.499,0.595) 1(6.499,0.628) 1(6.499,2.613) 1(6.499,2.646) 1(6.533,-2.084) 1(6.533,-2.051) 1(6.533,0.662) 1(6.533,0.695) 1(6.533,2.679) 1(6.533,2.712) 1(6.566,-2.018) 1(6.566,-1.985) 1(6.566,-1.951) 1(6.566,-1.918) 1(6.566,-1.885) 1(6.566,0.728) 1(6.566,2.745) 1(6.599,-1.852) 1(6.599,-1.819) 1(6.599,-1.786) 1(6.599,-1.753) 1(6.599,-1.72) 1(6.599,0.761) 1(6.599,0.794) 1(6.599,2.778) 1(6.599,2.811) 1(6.632,-1.687) 1(6.632,-1.654) 1(6.632,-1.621) 1(6.632,-1.588) 1(6.632,0.827) 1(6.632,0.86) 1(6.632,2.845) 1(6.632,2.878) 1(6.665,0.893) 1(6.665,0.926) 1(6.665,2.911) 1(6.698,-0.628) 1(6.698,0.959) 1(6.731,-0.595) 1(6.731,-0.562) 1(6.731,0.992) 1(6.731,1.025) 1(6.764,-0.529) 1(6.764,-0.496) 1(6.764,1.058) 1(6.764,1.092) 1(6.797,-0.463) 1(6.797,1.125) 1(6.83,-0.43) 1(6.83,-0.397) 1(6.83,1.158) 1(6.83,1.191) 1(6.863,-0.364) 1(6.863,-0.331) 1(6.863,1.224) 1(6.863,1.257) 1(6.896,-0.298) 1(6.896,1.29) 1(6.929,-0.265) 1(6.929,-0.232) 1(6.929,1.323) 1(6.929,1.356) 1(6.963,-0.198) 1(6.963,-0.165) 1(6.963,1.389) 1(6.963,1.422) 1(6.996,-0.132) 1(6.996,1.455) 1(7.029,-2.084) 1(7.029,-0.099) 1(7.029,-0.066) 1(7.062,-0.033) 1(7.062,0) 1(7.095,-1.588) 1(7.095,0.033) 1(7.128,-2.282) 1(7.128,-2.051) 1(7.128,0.066) 1(7.128,0.099) 1(7.161,-2.018) 1(7.161,-1.621) 1(7.161,0.132) 1(7.161,0.165) 1(7.194,-1.985) 1(7.194,-1.951) 1(7.194,-1.654) 1(7.194,0.198) 1(7.227,-2.249) 1(7.227,-1.918) 1(7.227,-1.885) 1(7.227,-1.852) 1(7.227,-1.819) 1(7.227,-1.786) 1(7.227,-1.753) 1(7.227,-1.72) 1(7.227,-1.687) 1(7.227,-1.389) 1(7.227,0.232) 1(7.227,0.265) 1(7.26,0.298) 1(7.26,0.331) 1(7.293,-2.216) 1(7.293,0.364) 1(7.326,-2.183) 1(7.326,-1.422) 1(7.326,0.397) 1(7.326,0.43) 1(7.359,-2.15) 1(7.359,-1.455) 1(7.359,0.463) 1(7.359,0.496) 1(7.393,-2.117) 1(7.393,-1.488) 1(7.393,0.529) 1(7.426,-2.084) 1(7.426,-2.051) 1(7.426,-1.522) 1(7.426,0.562) 1(7.426,0.595) 1(7.459,-2.018) 1(7.459,-1.985) 1(7.459,-1.588) 1(7.459,-1.555) 1(7.459,0.628) 1(7.459,0.662) 1(7.492,-1.951) 1(7.492,-1.918) 1(7.492,-1.885) 1(7.492,-1.852) 1(7.492,-1.819) 1(7.492,-1.786) 1(7.492,-1.753) 1(7.492,-1.72) 1(7.492,-1.687) 1(7.492,-1.654) 1(7.492,-1.621) 1(7.492,0.695) 1(7.525,-2.878) 1(7.525,-2.845) 1(7.525,-2.811) 1(7.525,0.728) 1(7.525,0.761) 1(7.558,-2.778) 1(7.558,-2.745) 1(7.558,-2.712) 1(7.558,-2.679) 1(7.558,-2.646) 1(7.558,0.794) 1(7.558,0.827) 1(7.591,-2.613) 1(7.591,-2.58) 1(7.591,-2.547) 1(7.591,-2.514) 1(7.591,-2.481) 1(7.591,0.86) 1(7.624,-2.448) 1(7.624,-2.415) 1(7.624,-2.381) 1(7.624,-2.348) 1(7.624,-2.315) 1(7.624,0.893) 1(7.624,0.926) 1(7.657,-2.282) 1(7.657,-2.249) 1(7.657,-2.216) 1(7.657,-2.183) 1(7.657,-2.15) 1(7.657,0.959) 1(7.657,0.992) 1(7.69,-2.117) 1(7.69,-2.084) 1(7.69,-2.051) 1(7.69,-2.018) 1(7.69,-1.985) 1(7.69,1.025) 1(7.723,-1.951) 1(7.723,-1.918) 1(7.723,-1.885) 1(7.723,-1.852) 1(7.723,-1.819) 1(7.723,1.058) 1(7.723,1.092) 1(7.756,-1.786) 1(7.756,-1.753) 1(7.756,-1.72) 1(7.756,-1.687) 1(7.756,-1.654) 1(7.756,-0.628) 1(7.756,1.125) 1(7.756,1.158) 1(7.789,-2.878) 1(7.789,-2.845) 1(7.789,-2.811) 1(7.789,-2.778) 1(7.789,-1.621) 1(7.789,-1.588) 1(7.789,-1.555) 1(7.789,-1.522) 1(7.789,-1.488) 1(7.789,-0.595) 1(7.789,-0.562) 1(7.789,1.191) 1(7.823,-2.745) 1(7.823,-2.712) 1(7.823,-2.679) 1(7.823,-2.646) 1(7.823,-2.613) 1(7.823,-1.455) 1(7.823,-1.422) 1(7.823,-1.389) 1(7.823,-0.529) 1(7.823,1.224) 1(7.823,1.257) 1(7.823,1.455) 1(7.856,-2.58) 1(7.856,-2.547) 1(7.856,-2.514) 1(7.856,-2.481) 1(7.856,-2.448) 1(7.856,-0.496) 1(7.856,-0.463) 1(7.856,1.29) 1(7.856,1.323) 1(7.856,1.356) 1(7.856,1.389) 1(7.856,1.422) 1(7.889,-2.415) 1(7.889,-2.381) 1(7.889,-2.348) 1(7.889,-2.315) 1(7.889,-2.282) 1(7.889,-0.43) 1(7.889,-0.397) 1(7.922,-2.249) 1(7.922,-2.216) 1(7.922,-0.364) 1(7.955,-1.951) 1(7.955,-0.331) 1(7.955,-0.298) 1(7.988,-1.918) 1(7.988,-1.885) 1(7.988,-1.852) 1(7.988,-1.819) 1(7.988,-1.786) 1(7.988,-0.265) 1(7.988,-0.232) 1(8.021,-1.753) 1(8.021,-1.72) 1(8.021,-1.687) 1(8.021,-1.654) 1(8.021,-1.621) 1(8.021,-0.198) 1(8.054,-1.588) 1(8.054,-1.555) 1(8.054,-1.522) 1(8.054,-1.488) 1(8.054,-1.455) 1(8.054,-0.165) 1(8.054,-0.132) 1(8.087,-1.422) 1(8.087,-1.389) 1(8.087,-0.099) 1(8.087,-0.066) 1(8.12,-0.033) 1(8.153,0) 1(8.153,0.033) 1(8.186,0.066) 1(8.186,0.099) 1(8.219,0.132) 1(8.253,0.165) 1(8.253,0.198) 1(8.286,0.232) 1(8.319,0.265) 1(8.319,0.298) 1(8.352,0.331) 1(8.352,0.364) 1(8.385,0.397) 1(8.418,0.43) 1(8.418,0.463) 1(8.451,0.496) 1(8.451,0.529) 1(8.484,-2.878) 1(8.484,-2.845) 1(8.484,0.562) 1(8.517,-2.811) 1(8.517,-2.778) 1(8.517,-2.745) 1(8.517,-2.712) 1(8.517,0.595) 1(8.517,0.628) 1(8.55,-2.679) 1(8.55,-2.646) 1(8.55,-2.613) 1(8.55,-2.58) 1(8.55,-2.547) 1(8.55,-0.628) 1(8.55,0.662) 1(8.55,0.695) 1(8.583,-2.514) 1(8.583,-2.481) 1(8.583,-2.448) 1(8.583,-2.415) 1(8.583,-2.381) 1(8.583,-0.595) 1(8.583,0.728) 1(8.616,-2.348) 1(8.616,-2.315) 1(8.616,-2.282) 1(8.616,-2.249) 1(8.616,-2.216) 1(8.616,-0.562) 1(8.616,-0.529) 1(8.616,0.761) 1(8.616,0.794) 1(8.649,-0.496) 1(8.649,-0.463) 1(8.649,0.827) 1(8.649,0.86) 1(8.683,-1.951) 1(8.683,-1.918) 1(8.683,-1.885) 1(8.683,-0.43) 1(8.683,0.893) 1(8.716,-1.852) 1(8.716,-1.819) 1(8.716,-1.786) 1(8.716,-1.753) 1(8.716,-1.72) 1(8.716,-0.397) 1(8.716,-0.364) 1(8.716,0.926) 1(8.716,0.959) 1(8.749,-2.878) 1(8.749,-2.845) 1(8.749,-2.811) 1(8.749,-1.687) 1(8.749,-1.654) 1(8.749,-1.621) 1(8.749,-1.588) 1(8.749,-1.555) 1(8.749,-0.331) 1(8.749,-0.298) 1(8.749,0.992) 1(8.749,1.025) 1(8.782,-2.778) 1(8.782,-2.745) 1(8.782,-2.712) 1(8.782,-2.679) 1(8.782,-1.522) 1(8.782,-1.488) 1(8.782,-1.455) 1(8.782,-1.422) 1(8.782,-1.389) 1(8.782,-0.265) 1(8.782,-0.232) 1(8.782,1.058) 1(8.815,-2.646) 1(8.815,-2.613) 1(8.815,-2.58) 1(8.815,-2.547) 1(8.815,-2.514) 1(8.815,-0.198) 1(8.815,1.092) 1(8.815,1.125) 1(8.848,-2.481) 1(8.848,-2.448) 1(8.848,-2.415) 1(8.848,-2.381) 1(8.848,-2.348) 1(8.848,-0.165) 1(8.848,-0.132) 1(8.848,1.158) 1(8.848,1.191) 1(8.881,-2.315) 1(8.881,-2.282) 1(8.881,-2.249) 1(8.881,-2.216) 1(8.881,-2.183) 1(8.881,-0.099) 1(8.881,-0.066) 1(8.881,1.224) 1(8.914,-2.15) 1(8.914,-2.117) 1(8.914,-2.084) 1(8.914,-2.051) 1(8.914,-2.018) 1(8.914,-0.033) 1(8.914,1.257) 1(8.914,1.29) 1(8.947,-1.985) 1(8.947,-1.951) 1(8.947,-1.918) 1(8.947,-1.885) 1(8.947,-1.852) 1(8.947,0) 1(8.947,0.033) 1(8.947,1.323) 1(8.947,1.356) 1(8.98,-1.819) 1(8.98,-1.786) 1(8.98,-1.753) 1(8.98,-1.72) 1(8.98,-1.687) 1(8.98,0.066) 1(8.98,0.099) 1(8.98,1.389) 1(9.013,-1.654) 1(9.013,-1.621) 1(9.013,-1.588) 1(9.013,-1.555) 1(9.013,-1.522) 1(9.013,0.132) 1(9.013,1.422) 1(9.013,1.455) 1(9.046,-1.488) 1(9.046,-1.455) 1(9.046,-1.422) 1(9.046,-1.389) 1(9.046,0.165) 1(9.046,0.198) 1(9.079,0.232) 1(9.079,0.265) 1(9.113,0.298) 1(9.146,0.331) 1(9.146,0.364) 1(9.179,-1.389) 1(9.179,0.397) 1(9.179,0.43) 1(9.212,-1.455) 1(9.212,-1.422) 1(9.212,0.463) 1(9.245,-1.555) 1(9.245,-1.522) 1(9.245,-1.488) 1(9.245,0.496) 1(9.245,0.529) 1(9.278,-1.621) 1(9.278,-1.588) 1(9.278,0.562) 1(9.278,0.595) 1(9.311,-1.72) 1(9.311,-1.687) 1(9.311,-1.654) 1(9.311,0.628) 1(9.344,-1.786) 1(9.344,-1.753) 1(9.344,0.662) 1(9.344,0.695) 1(9.377,-1.885) 1(9.377,-1.852) 1(9.377,-1.819) 1(9.377,0.728) 1(9.377,0.761) 1(9.377,2.911) 1(9.41,-1.951) 1(9.41,-1.918) 1(9.41,0.794) 1(9.443,-2.878) 1(9.443,-2.845) 1(9.443,-2.811) 1(9.443,-2.778) 1(9.443,-2.745) 1(9.443,-2.051) 1(9.443,-2.018) 1(9.443,-1.985) 1(9.443,0.827) 1(9.443,0.86) 1(9.476,-2.712) 1(9.476,-2.679) 1(9.476,-2.646) 1(9.476,-2.613) 1(9.476,-2.58) 1(9.476,-2.117) 1(9.476,-2.084) 1(9.476,-1.455) 1(9.476,-1.422) 1(9.476,-1.389) 1(9.476,0.893) 1(9.476,0.926) 1(9.509,-2.547) 1(9.509,-2.514) 1(9.509,-2.481) 1(9.509,-2.448) 1(9.509,-2.216) 1(9.509,-2.183) 1(9.509,-2.15) 1(9.509,-1.555) 1(9.509,-1.522) 1(9.509,-1.488) 1(9.509,0.959) 1(9.543,-2.415) 1(9.543,-2.381) 1(9.543,-2.348) 1(9.543,-2.315) 1(9.543,-2.282) 1(9.543,-2.249) 1(9.543,-1.621) 1(9.543,-1.588) 1(9.543,0.992) 1(9.543,1.025) 1(9.543,2.878) 1(9.576,-1.72) 1(9.576,-1.687) 1(9.576,-1.654) 1(9.576,1.058) 1(9.576,1.092) 1(9.576,1.455) 1(9.609,-1.819) 1(9.609,-1.786) 1(9.609,-1.753) 1(9.609,1.125) 1(9.642,-1.885) 1(9.642,-1.852) 1(9.642,1.158) 1(9.642,1.191) 1(9.642,1.422) 1(9.642,2.845) 1(9.675,-2.878) 1(9.675,-1.985) 1(9.675,-1.951) 1(9.675,-1.918) 1(9.675,1.224) 1(9.675,1.257) 1(9.675,1.29) 1(9.675,1.323) 1(9.675,1.356) 1(9.675,1.389) 1(9.708,-2.845) 1(9.708,-2.811) 1(9.708,-2.778) 1(9.708,-2.745) 1(9.708,-2.018) 1(9.741,-2.712) 1(9.741,-2.679) 1(9.741,-2.646) 1(9.741,-2.613) 1(9.741,-2.58) 1(9.741,-2.018) 1(9.741,2.811) 1(9.774,-2.547) 1(9.774,-2.514) 1(9.774,-2.481) 1(9.774,-2.448) 1(9.774,-2.415) 1(9.774,-1.985) 1(9.807,-2.381) 1(9.807,-2.348) 1(9.807,-2.315) 1(9.807,-1.951) 1(9.807,-1.918) 1(9.84,-2.282) 1(9.84,-2.249) 1(9.84,-1.885) 1(9.84,2.778) 1(9.873,-2.216) 1(9.873,-1.852) 1(9.906,-2.183) 1(9.906,-1.819) 1(9.906,2.745) 1(9.939,-2.15) 1(9.939,-1.786) 1(9.939,-1.753) 1(9.973,-2.117) 1(9.973,-2.084) 1(9.973,-1.72) 1(9.973,2.712) 1(10.006,-2.051) 1(10.006,-1.687) 1(10.039,-2.018) 1(10.039,-1.654) 1(10.039,-1.621) 1(10.039,-0.628) 1(10.039,-0.595) 1(10.039,2.679) 1(10.072,-1.985) 1(10.072,-1.951) 1(10.072,-1.588) 1(10.072,-0.562) 1(10.105,-1.918) 1(10.105,-1.555) 1(10.105,-0.529) 1(10.105,-0.496) 1(10.105,2.646) 1(10.138,-1.885) 1(10.138,-1.522) 1(10.138,-1.488) 1(10.138,-0.463) 1(10.138,-0.43) 1(10.138,2.613) 1(10.171,-1.852) 1(10.171,-1.455) 1(10.171,-0.397) 1(10.204,-1.819) 1(10.204,-1.786) 1(10.204,-1.422) 1(10.204,-0.364) 1(10.204,-0.331) 1(10.204,2.58) 1(10.237,-1.753) 1(10.237,-1.389) 1(10.237,-0.298) 1(10.237,-0.265) 1(10.237,2.547) 1(10.27,-1.72) 1(10.27,-0.232) 1(10.27,2.514) 1(10.303,-1.687) 1(10.303,-0.198) 1(10.303,-0.165) 1(10.336,-1.654) 1(10.336,-1.621) 1(10.336,-0.132) 1(10.336,-0.099) 1(10.336,2.481) 1(10.369,-1.588) 1(10.369,-0.066) 1(10.369,2.448) 1(10.402,-1.555) 1(10.402,-0.033) 1(10.402,0) 1(10.402,2.415) 1(10.436,-1.522) 1(10.436,0.033) 1(10.436,0.066) 1(10.436,2.381) 1(10.469,-1.488) 1(10.469,-1.455) 1(10.469,0.099) 1(10.469,2.348) 1(10.502,-1.422) 1(10.502,0.132) 1(10.502,0.165) 1(10.502,2.282) 1(10.502,2.315) 1(10.535,-1.389) 1(10.535,0.198) 1(10.535,0.232) 1(10.535,2.249) 1(10.568,0.265) 1(10.568,2.216) 1(10.601,0.298) 1(10.601,0.331) 1(10.601,2.15) 1(10.601,2.183) 1(10.634,0.364) 1(10.634,0.397) 1(10.634,2.117) 1(10.667,0.43) 1(10.667,2.051) 1(10.667,2.084) 1(10.7,0.463) 1(10.7,0.496) 1(10.7,1.985) 1(10.7,2.018) 1(10.733,0.529) 1(10.733,0.562) 1(10.733,1.885) 1(10.733,1.918) 1(10.733,1.952) 1(10.766,0.595) 1(10.766,0.628) 1(10.766,1.819) 1(10.766,1.852) 1(10.799,0.662) 1(10.799,0.695) 1(10.799,0.728) 1(10.799,1.687) 1(10.799,1.72) 1(10.799,1.753) 1(10.799,1.786) 1(10.832,0.761) 1(10.832,0.794) 1(10.832,0.827) 1(10.832,0.86) 1(10.832,1.555) 1(10.832,1.588) 1(10.832,1.621) 1(10.832,1.654) 1(10.866,0.893) 1(10.866,0.926) 1(10.866,0.959) 1(10.866,0.992) 1(10.866,1.025) 1(10.866,1.058) 1(10.866,1.092) 1(10.866,1.125) 1(10.866,1.158) 1(10.866,1.191) 1(10.866,1.224) 1(10.866,1.257) 1(10.866,1.29) 1(10.866,1.323) 1(10.866,1.356) 1(10.866,1.389) 1(10.866,1.422) 1(10.866,1.455) 1(10.866,1.488) 1(10.866,1.522)
Top Overlay:
  drawing of 1978 lines, arcs and shapes, not listed